# Altium integrated library Lattice CPLD ispLSI 5000VE.IntLib: 66 symbols (part 6 of 7)
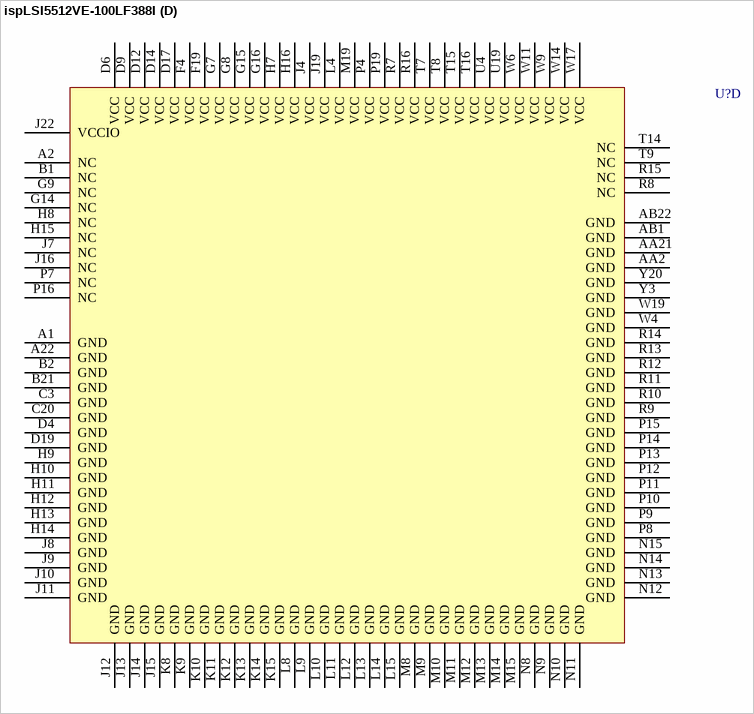
[diagram p62: symbol ispLSI5512VE-100LF388I]

## ispLSI5512VE-100LF388I
designator U?
ispLSI 5512VE SuperWIDE High Density PLD with 256 User I/Os, 10 ns, 3.3 V, Industrial Grade; Published: 17-Sep-2003; LatestRevisionDate: 13-Apr-2006; LatestRevisionNote: IPC-7351 Footprint Added.; DatasheetVersion: 5512ve_05, Jan-2002; PackageVersion: pkg_32, Aug-2005; PackageReference: fpBGA388; Publisher: Altium Limited; PackageDescription: 388-Ball Fine Pitch Ball Grid Array (fpBGA388); ComponentLink1Description: Manufacturer Link; ComponentLink1URL: http://www.latticesemi.com/products/cpld/5000/5000VE/index.cfm; ComponentLink2Description: Datasheet; ComponentLink2URL: http://www.latticesemi.com/account/_download.cfm?AMID=817; ComponentLink3Description: Lattice Login; ComponentLink3URL: http://www.latticesemi.com/account/login.cfm
footprint fpBGA388 (BGA, 388-Leads, Body 23x23mm, Pitch 1mm)
3D model 5512VE-fpBGA388 (388-Ball Fine Pitch Ball Grid Array (fpBGA388))
part A pins: AA1 I/O20 (io), AA3 I/O26 (io), AA4 I/O31 (io), AA5 I/O34 (io), AA6 I/O37 (io), AA7 I/O42 (io), AA8 I/O46 (io), AA9 I/O50 (io), AA10 I/O55 (io), AA11 I/O59 (io), AA12 I/O63 (io), AA13 I/O68 (io), AA14 I/O71 (io), AA15 I/O74 (io), AA16 I/O79 (io), AA17 I/O84 (io), AA18 I/O88 (io), AA19 I/O91 (io), AA20 I/O96 (io), AA22 I/O98 (io), AB2 I/O25 (io), AB3 I/O29 (io), AB4 I/O33 (io), AB5 I/O36 (io), AB6 I/O40 (io), AB7 I/O43 (io), AB8 I/O47 (io), AB9 I/O51 (io), AB10 I/O56 (io), AB11 I/O58 (io), AB12 I/O62 (io), AB13 I/O67 (io), AB14 I/O70 (io), AB15 I/O73 (io), AB16 I/O78 (io), AB17 I/O81 (io), AB18 I/O86 (io), AB19 I/O89 (io), AB20 I/O92 (io), AB21 I/O97 (io), K20 I/O142 (io), K21 I/O141 (io), K22 I/O140 (io), L16 I/O143 (io), L19 I/O139 (io), L20 I/O137 (io), L21 I/O136 (io), L22 I/O135 (io), M16 I/O133 (io), M20 I/O134 (io), M21 I/O132 (io), M22 I/O131 (io), N7 I/O5 (io), N16 I/O124 (io), N19 I/O126 (io), N20 I/O127 (io), N21 I/O128 (io), N22 I/O130 (io), P20 I/O122 (io), P21 I/O123 (io), P22 I/O125 (io), R1 I/O0/TOE (io), R2 I/O1 (io), R3 I/O4 (io), R4 I/O7 (io), R19 I/O116 (io), R20 I/O118 (io), R21 I/O119 (io), R22 I/O121 (io), T1 I/O2 (io), T2 I/O6 (io), T3 I/O9 (io), T4 I/O13 (io), T10 I/O52 (io), T11 I/O61 (io), T13 I/O76 (io), T19 I/O110 (io), T20 I/O114 (io), T21 I/O115 (io), T22 I/O117 (io), U1 I/O8 (io), U2 I/O10 (io), U3 I/O14 (io), U20 I/O108 (io), U21 I/O112 (io), U22 I/O113 (io), V1 I/O11 (io), V2 I/O15 (io), V3 I/O17 (io), V4 I/O23 (io), V19 I/O101 (io), V20 I/O105 (io), V21 I/O107 (io), V22 I/O109 (io), W1 I/O16 (io), W2 I/O18 (io), W3 I/O24 (io), W5 I/O28 (io), W7 I/O38 (io), W8 I/O44 (io), W10 I/O53 (io), W12 I/O65 (io), W13 I/O69 (io), W15 I/O80 (io), W16 I/O85 (io), W18 I/O94 (io), W20 I/O100 (io), W21 I/O104 (io), W22 I/O106 (io), Y1 I/O19 (io), Y2 I/O22 (io), Y4 I/O27 (io), Y5 I/O32 (io), Y6 I/O35 (io), Y7 I/O41 (io), Y8 I/O45 (io), Y9 I/O49 (io), Y10 I/O54 (io), Y11 I/O60 (io), Y12 I/O64 (io), Y14 I/O72 (io), Y15 I/O77 (io), Y16 I/O82 (io), Y17 I/O87 (io), Y18 I/O90 (io), Y19 I/O95 (io), Y21 I/O99 (io), Y22 I/O103 (io)
part B pins: A3 I/O237 (io), A4 I/O234 (io), A5 I/O231 (io), A6 I/O226 (io), A7 I/O223 (io), A8 I/O218 (io), A9 I/O215 (io), A10 I/O211 (io), A11 I/O207 (io), A12 I/O202 (io), A13 I/O201 (io), A14 I/O196 (io), A15 I/O192 (io), A16 I/O189 (io), A17 I/O184 (io), A18 I/O181 (io), A19 I/O178 (io), A20 I/O174 (io), A21 I/O170 (io), B3 I/O241 (io), B4 I/O236 (io), B5 I/O233 (io), B6 I/O228 (io), B7 I/O224 (io), B8 I/O219 (io), B9 I/O216 (io), B11 I/O208 (io), B12 I/O204 (io), B13 I/O200 (io), B14 I/O195 (io), B15 I/O191 (io), B16 I/O187 (io), B17 I/O182 (io), B18 I/O179/CLK2 (io), B19 I/O175 (io), B20 I/O171 (io), B22 I/O169 (io), C1 I/O245 (io), C2 I/O242 (io), C4 I/O240 (io), C5 I/O235 (io), C6 I/O232 (io), C7 I/O227 (io), C8 I/O221 (io), C9 I/O217 (io), C10 I/O213 (io), C11 I/O209 (io), C12 I/O205 (io), C13 I/O199 (io), C14 I/O193 (io), C15 I/O190 (io), C16 I/O186 (io), C17 I/O180 (io), C18 I/O177 (io), C19 I/O172 (io), C21 I/O165 (io), C22 I/O164 (io), D1 I/O249 (io), D2 I/O246 (io), D3 I/O243 (io), D5 I/O238 (io), D7 I/O229 (io), D8 I/O225 (io), D10 I/O214 (io), D11 I/O210 (io), D13 I/O198 (io), D15 I/O188 (io), D16 I/O183 (io), D18 I/O173 (io), D20 I/O168 (io), D21 I/O163 (io), D22 I/O161 (io), E1 I/O252 (io), E2 I/O250 (io), E3 I/O247 (io), E4 I/O244 (io), E19 I/O166 (io), E20 I/O162 (io), E21 I/O160 (io), E22 I/O156 (io), F1 I/O256 (io), F2 I/O253 (io), F3 I/O251 (io), F20 I/O159 (io), F21 I/O155 (io), F22 I/O153 (io), G1 I/O259 (io), G2 I/O258 (io), G3 I/O255 (io), G4 I/O254 (io), G10 I/O220 (io), G12 I/O206 (io), G13 I/O197CLK3 (io), G19 I/O157 (io), G20 I/O154 (io), G21 I/O151 (io), G22 I/O147 (io), H1 I/O263 (io), H2 I/O262 (io), H3 I/O261 (io), H4 I/O260 (io), H19 I/O152 (io), H20 I/O148 (io), H21 I/O146 (io), H22 I/O145 (io), J1 I/O268 (io), J2 I/O265 (io), J3 I/O264 (io), J20 I/O144 (io), K1 I/O272 (io), K2 I/O271 (io), K3 I/O270 (io), K4 I/O269 (io), K7 I/O267 (io), K16 I/O150 (io), L1 I/O273 (io), L2 I/O274 (io), L3 I/O276 (io), L7 I/O277 (io), M1 I/O278 (io), M2 I/O279 (io), M3 I/O280 (io), M4 I/O281 (io), M7 I/O287 (io), N1 I/O282 (io), N2 I/O283 (io), N3 I/O285 (io), P1 I/O286 (io)
part C pins: B10 CLK0 (in), G11 CLK1 (in), J21 RESET (in), K19 TDO (out), N4 TMS (in), P2 TDI (in), P3 TCK (in), T12 GOE1 (in), Y13 GOE0 (in)
part D pins: A1 GND (power), A2 NC, A22 GND (power), AA2 GND (power), AA21 GND (power), AB1 GND (power), AB22 GND (power), B1 NC, B2 GND (power), B21 GND (power), C3 GND (power), C20 GND (power), D4 GND (power), D6 VCC (power), D9 VCC (power), D12 VCC (power), D14 VCC (power), D17 VCC (power), D19 GND (power), F4 VCC (power), F19 VCC (power), G7 VCC (power), G8 VCC (power), G9 NC, G14 NC, G15 VCC (power), G16 VCC (power), H7 VCC (power), H8 NC, H9 GND (power), H10 GND (power), H11 GND (power), H12 GND (power), H13 GND (power), H14 GND (power), H15 NC, H16 VCC (power), J4 VCC (power), J7 NC, J8 GND (power), J9 GND (power), J10 GND (power), J11 GND (power), J12 GND (power), J13 GND (power), J14 GND (power), J15 GND (power), J16 NC, J19 VCC (power), J22 VCCIO (power), K8 GND (power), K9 GND (power), K10 GND (power), K11 GND (power), K12 GND (power), K13 GND (power), K14 GND (power), K15 GND (power), L4 VCC (power), L8 GND (power), L9 GND (power), L10 GND (power), L11 GND (power), L12 GND (power), L13 GND (power), L14 GND (power), L15 GND (power), M8 GND (power), M9 GND (power), M10 GND (power), M11 GND (power), M12 GND (power), M13 GND (power), M14 GND (power), M15 GND (power), M19 VCC (power), N8 GND (power), N9 GND (power), N10 GND (power), N11 GND (power), N12 GND (power), N13 GND (power), N14 GND (power), N15 GND (power), P4 VCC (power), P7 NC, P8 GND (power), P9 GND (power), P10 GND (power), P11 GND (power), P12 GND (power), P13 GND (power), P14 GND (power), P15 GND (power), P16 NC, P19 VCC (power), R7 VCC (power), R8 NC, R9 GND (power), R10 GND (power), R11 GND (power), R12 GND (power), R13 GND (power), R14 GND (power), R15 NC, R16 VCC (power), T7 VCC (power), T8 VCC (power), T9 NC, T14 NC, T15 VCC (power), T16 VCC (power), U4 VCC (power), U19 VCC (power), W4 GND (power), W6 VCC (power), W9 VCC (power), W11 VCC (power), W14 VCC (power), W17 VCC (power), W19 GND (power), Y3 GND (power), Y20 GND (power)

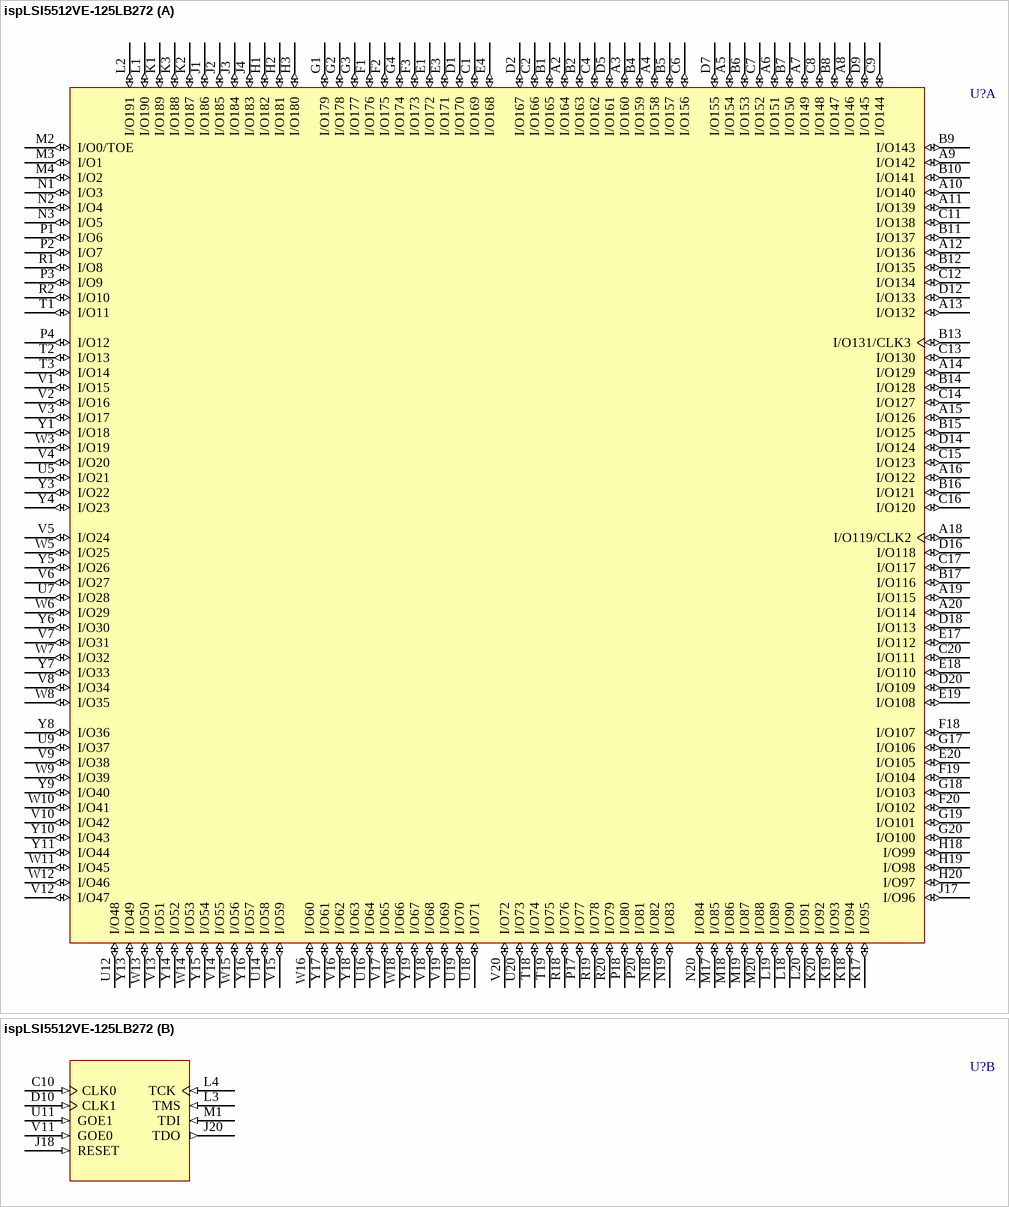
[diagram p42: symbol ispLSI5512VE-125LB272]

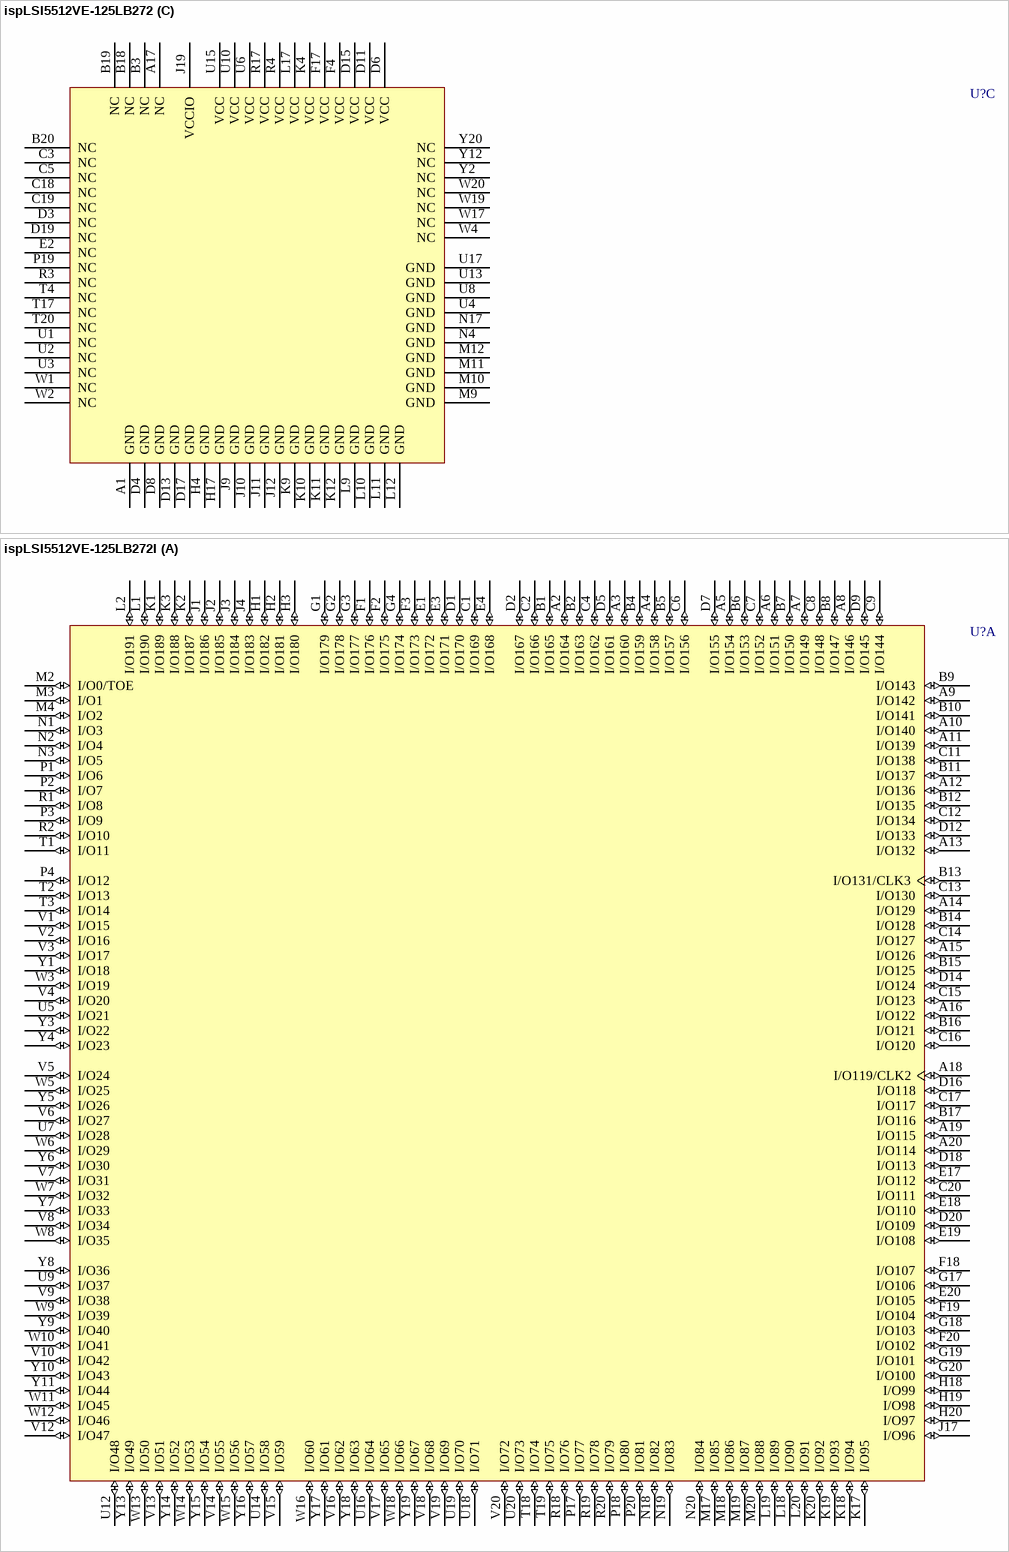
[diagram p43: symbols ispLSI5512VE-125LB272 to ispLSI5512VE-125LB272I]

## ispLSI5512VE-125LB272
designator U?
ispLSI 5512VE SuperWIDE High Density PLD with 192 User I/Os, 7.5 ns, 3.3 V, Commercial Grade; Published: 17-Sep-2003; LatestRevisionDate: 13-Apr-2006; LatestRevisionNote: IPC-7351 Footprint Added.; DatasheetVersion: 5512ve_05, Jan-2002; PackageVersion: pkg_32, Aug-2005; PackageReference: BGA272; Publisher: Altium Limited; PackageDescription: 272-Ball Ball Grid Array (BGA272); ComponentLink1Description: Manufacturer Link; ComponentLink1URL: http://www.latticesemi.com/products/cpld/5000/5000VE/index.cfm; ComponentLink2Description: Datasheet; ComponentLink2URL: http://www.latticesemi.com/account/_download.cfm?AMID=817; ComponentLink3Description: Lattice Login; ComponentLink3URL: http://www.latticesemi.com/account/login.cfm
footprint BGA272 (BGA, 272-Leads, Body 27x27mm, Pitch 1.27mm)
3D model 5512VE-BGA272 (272-Ball Ball Grid Array (BGA272))
part A pins: A2 I/O164 (io), A3 I/O160 (io), A4 I/O158 (io), A5 I/O154 (io), A6 I/O151 (io), A7 I/O149 (io), A8 I/O146 (io), A9 I/O142 (io), A10 I/O140 (io), A11 I/O139 (io), A12 I/O136 (io), A13 I/O132 (io), A14 I/O129 (io), A15 I/O126 (io), A16 I/O122 (io), A18 I/O119/CLK2 (io), A19 I/O115 (io), A20 I/O114 (io), B1 I/O165 (io), B2 I/O163 (io), B4 I/O159 (io), B5 I/O157 (io), B6 I/O153 (io), B7 I/O150 (io), B8 I/O147 (io), B9 I/O143 (io), B10 I/O141 (io), B11 I/O137 (io), B12 I/O135 (io), B13 I/O131/CLK3 (io), B14 I/O128 (io), B15 I/O125 (io), B16 I/O121 (io), B17 I/O116 (io), C1 I/O169 (io), C2 I/O166 (io), C4 I/O162 (io), C6 I/O156 (io), C7 I/O152 (io), C8 I/O148 (io), C9 I/O144 (io), C11 I/O138 (io), C12 I/O134 (io), C13 I/O130 (io), C14 I/O127 (io), C15 I/O123 (io), C16 I/O120 (io), C17 I/O117 (io), C20 I/O111 (io), D1 I/O170 (io), D2 I/O167 (io), D5 I/O161 (io), D7 I/O155 (io), D9 I/O145 (io), D12 I/O133 (io), D14 I/O124 (io), D16 I/O118 (io), D18 I/O113 (io), D20 I/O109 (io), E1 I/O172 (io), E3 I/O171 (io), E4 I/O168 (io), E17 I/O112 (io), E18 I/O110 (io), E19 I/O108 (io), E20 I/O105 (io), F1 I/O176 (io), F2 I/O175 (io), F3 I/O173 (io), F18 I/O107 (io), F19 I/O104 (io), F20 I/O102 (io), G1 I/O179 (io), G2 I/O178 (io), G3 I/O177 (io), G4 I/O174 (io), G17 I/O106 (io), G18 I/O103 (io), G19 I/O101 (io), G20 I/O100 (io), H1 I/O182 (io), H2 I/O181 (io), H3 I/O180 (io), H18 I/O99 (io), H19 I/O98 (io), H20 I/O97 (io), J1 I/O186 (io), J2 I/O185 (io), J3 I/O184 (io), J4 I/O183 (io), J17 I/O96 (io), K1 I/O189 (io), K2 I/O187 (io), K3 I/O188 (io), K17 I/O95 (io), K18 I/O94 (io), K19 I/O93 (io), K20 I/O92 (io), L1 I/O190 (io), L2 I/O191 (io), L18 I/O90 (io), L19 I/O89 (io), L20 I/O91 (io), M2 I/O0/TOE (io), M3 I/O1 (io), M4 I/O2 (io), M17 I/O85 (io), M18 I/O86 (io), M19 I/O87 (io), M20 I/O88 (io), N1 I/O3 (io), N2 I/O4 (io), N3 I/O5 (io), N18 I/O82 (io), N19 I/O83 (io), N20 I/O84 (io), P1 I/O6 (io), P2 I/O7 (io), P3 I/O9 (io), P4 I/O12 (io), P17 I/O77 (io), P18 I/O80 (io), P20 I/O81 (io), R1 I/O8 (io), R2 I/O10 (io), R18 I/O76 (io), R19 I/O78 (io), R20 I/O79 (io), T1 I/O11 (io), T2 I/O13 (io), T3 I/O14 (io), T18 I/O74 (io), T19 I/O75 (io), U5 I/O21 (io), U7 I/O28 (io), U9 I/O37 (io), U12 I/O48 (io), U14 I/O58 (io), U16 I/O64 (io), U18 I/O71 (io), U19 I/O70 (io), U20 I/O73 (io), V1 I/O15 (io), V2 I/O16 (io), V3 I/O17 (io), V4 I/O20 (io), V5 I/O24 (io), V6 I/O27 (io), V7 I/O31 (io), V8 I/O34 (io), V9 I/O38 (io), V10 I/O42 (io), V12 I/O47 (io), V13 I/O51 (io), V14 I/O55 (io), V15 I/O59 (io), V16 I/O62 (io), V17 I/O65 (io), V18 I/O68 (io), V19 I/O69 (io), V20 I/O72 (io), W3 I/O19 (io), W5 I/O25 (io), W6 I/O29 (io), W7 I/O32 (io), W8 I/O35 (io), W9 I/O39 (io), W10 I/O41 (io), W11 I/O45 (io), W12 I/O46 (io), W13 I/O50 (io), W14 I/O53 (io), W15 I/O56 (io), W16 I/O60 (io), W18 I/O66 (io), Y1 I/O18 (io), Y3 I/O22 (io), Y4 I/O23 (io), Y5 I/O26 (io), Y6 I/O30 (io), Y7 I/O33 (io), Y8 I/O36 (io), Y9 I/O40 (io), Y10 I/O43 (io), Y11 I/O44 (io), Y13 I/O49 (io), Y14 I/O52 (io), Y15 I/O54 (io), Y16 I/O57 (io), Y17 I/O61 (io), Y18 I/O63 (io), Y19 I/O67 (io)
part B pins: C10 CLK0 (in), D10 CLK1 (in), J18 RESET (in), J20 TDO (out), L3 TMS (in), L4 TCK (in), M1 TDI (in), U11 GOE1 (in), V11 GOE0 (in)
part C pins: A1 GND (power), A17 NC, B3 NC, B18 NC, B19 NC, B20 NC, C3 NC, C5 NC, C18 NC, C19 NC, D3 NC, D4 GND (power), D6 VCC (power), D8 GND (power), D11 VCC (power), D13 GND (power), D15 VCC (power), D17 GND (power), D19 NC, E2 NC, F4 VCC (power), F17 VCC (power), H4 GND (power), H17 GND (power), J9 GND (power), J10 GND (power), J11 GND (power), J12 GND (power), J19 VCCIO (power), K4 VCC (power), K9 GND (power), K10 GND (power), K11 GND (power), K12 GND (power), L9 GND (power), L10 GND (power), L11 GND (power), L12 GND (power), L17 VCC (power), M9 GND (power), M10 GND (power), M11 GND (power), M12 GND (power), N4 GND (power), N17 GND (power), P19 NC, R3 NC, R4 VCC (power), R17 VCC (power), T4 NC, T17 NC, T20 NC, U1 NC, U2 NC, U3 NC, U4 GND (power), U6 VCC (power), U8 GND (power), U10 VCC (power), U13 GND (power), U15 VCC (power), U17 GND (power), W1 NC, W2 NC, W4 NC, W17 NC, W19 NC, W20 NC, Y2 NC, Y12 NC, Y20 NC

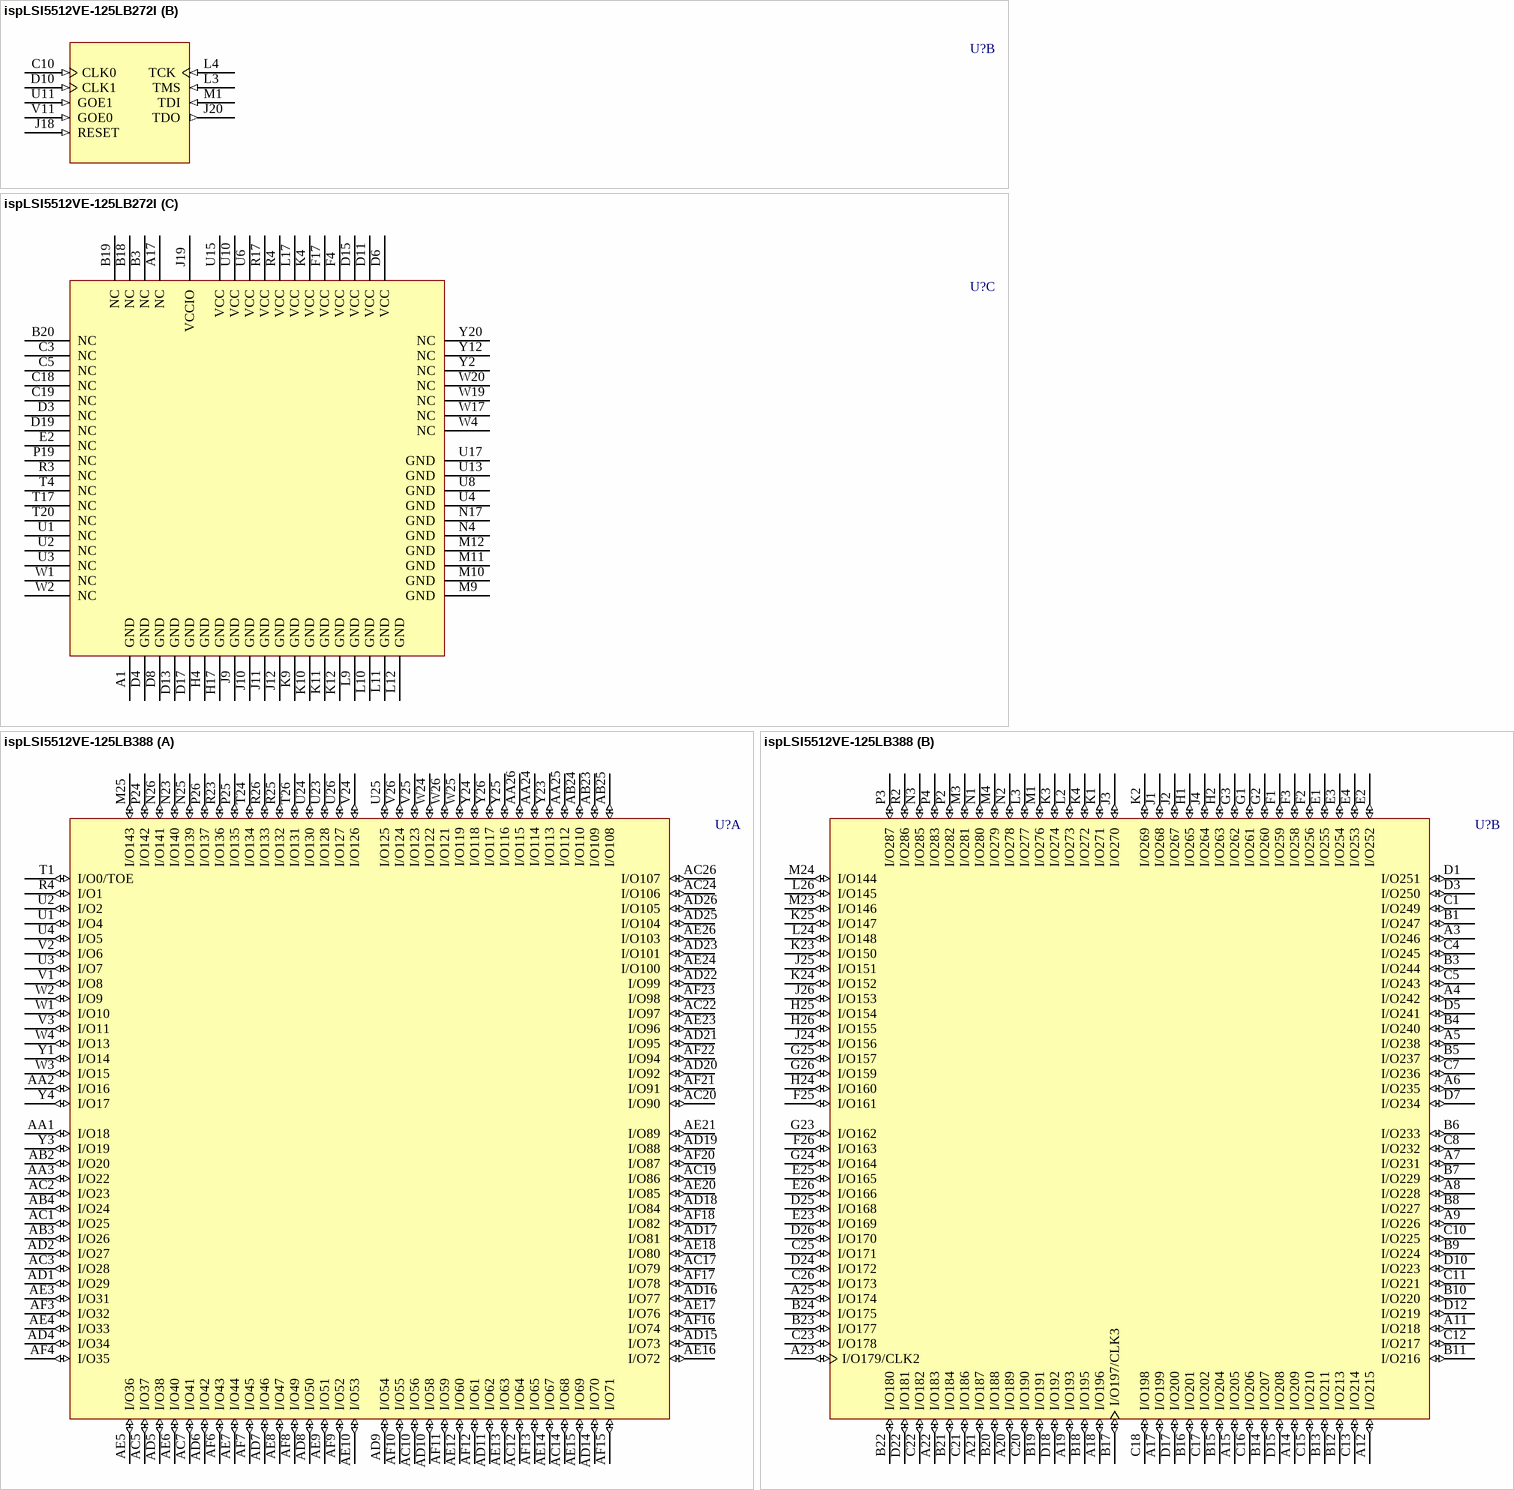
[diagram p44: symbols ispLSI5512VE-125LB272I to ispLSI5512VE-125LB388]

## ispLSI5512VE-125LB272I
designator U?
ispLSI 5512VE SuperWIDE High Density PLD with 192 User I/Os, 7.5 ns, 3.3 V, Industrial Grade; Published: 17-Sep-2003; LatestRevisionDate: 13-Apr-2006; LatestRevisionNote: IPC-7351 Footprint Added.; DatasheetVersion: 5512ve_05, Jan-2002; PackageVersion: pkg_32, Aug-2005; PackageReference: BGA272; Publisher: Altium Limited; PackageDescription: 272-Ball Ball Grid Array (BGA272); ComponentLink1Description: Manufacturer Link; ComponentLink1URL: http://www.latticesemi.com/products/cpld/5000/5000VE/index.cfm; ComponentLink2Description: Datasheet; ComponentLink2URL: http://www.latticesemi.com/account/_download.cfm?AMID=817; ComponentLink3Description: Lattice Login; ComponentLink3URL: http://www.latticesemi.com/account/login.cfm
footprint BGA272 (BGA, 272-Leads, Body 27x27mm, Pitch 1.27mm)
3D model 5512VE-BGA272 (272-Ball Ball Grid Array (BGA272))
part A pins: A2 I/O164 (io), A3 I/O160 (io), A4 I/O158 (io), A5 I/O154 (io), A6 I/O151 (io), A7 I/O149 (io), A8 I/O146 (io), A9 I/O142 (io), A10 I/O140 (io), A11 I/O139 (io), A12 I/O136 (io), A13 I/O132 (io), A14 I/O129 (io), A15 I/O126 (io), A16 I/O122 (io), A18 I/O119/CLK2 (io), A19 I/O115 (io), A20 I/O114 (io), B1 I/O165 (io), B2 I/O163 (io), B4 I/O159 (io), B5 I/O157 (io), B6 I/O153 (io), B7 I/O150 (io), B8 I/O147 (io), B9 I/O143 (io), B10 I/O141 (io), B11 I/O137 (io), B12 I/O135 (io), B13 I/O131/CLK3 (io), B14 I/O128 (io), B15 I/O125 (io), B16 I/O121 (io), B17 I/O116 (io), C1 I/O169 (io), C2 I/O166 (io), C4 I/O162 (io), C6 I/O156 (io), C7 I/O152 (io), C8 I/O148 (io), C9 I/O144 (io), C11 I/O138 (io), C12 I/O134 (io), C13 I/O130 (io), C14 I/O127 (io), C15 I/O123 (io), C16 I/O120 (io), C17 I/O117 (io), C20 I/O111 (io), D1 I/O170 (io), D2 I/O167 (io), D5 I/O161 (io), D7 I/O155 (io), D9 I/O145 (io), D12 I/O133 (io), D14 I/O124 (io), D16 I/O118 (io), D18 I/O113 (io), D20 I/O109 (io), E1 I/O172 (io), E3 I/O171 (io), E4 I/O168 (io), E17 I/O112 (io), E18 I/O110 (io), E19 I/O108 (io), E20 I/O105 (io), F1 I/O176 (io), F2 I/O175 (io), F3 I/O173 (io), F18 I/O107 (io), F19 I/O104 (io), F20 I/O102 (io), G1 I/O179 (io), G2 I/O178 (io), G3 I/O177 (io), G4 I/O174 (io), G17 I/O106 (io), G18 I/O103 (io), G19 I/O101 (io), G20 I/O100 (io), H1 I/O182 (io), H2 I/O181 (io), H3 I/O180 (io), H18 I/O99 (io), H19 I/O98 (io), H20 I/O97 (io), J1 I/O186 (io), J2 I/O185 (io), J3 I/O184 (io), J4 I/O183 (io), J17 I/O96 (io), K1 I/O189 (io), K2 I/O187 (io), K3 I/O188 (io), K17 I/O95 (io), K18 I/O94 (io), K19 I/O93 (io), K20 I/O92 (io), L1 I/O190 (io), L2 I/O191 (io), L18 I/O90 (io), L19 I/O89 (io), L20 I/O91 (io), M2 I/O0/TOE (io), M3 I/O1 (io), M4 I/O2 (io), M17 I/O85 (io), M18 I/O86 (io), M19 I/O87 (io), M20 I/O88 (io), N1 I/O3 (io), N2 I/O4 (io), N3 I/O5 (io), N18 I/O82 (io), N19 I/O83 (io), N20 I/O84 (io), P1 I/O6 (io), P2 I/O7 (io), P3 I/O9 (io), P4 I/O12 (io), P17 I/O77 (io), P18 I/O80 (io), P20 I/O81 (io), R1 I/O8 (io), R2 I/O10 (io), R18 I/O76 (io), R19 I/O78 (io), R20 I/O79 (io), T1 I/O11 (io), T2 I/O13 (io), T3 I/O14 (io), T18 I/O74 (io), T19 I/O75 (io), U5 I/O21 (io), U7 I/O28 (io), U9 I/O37 (io), U12 I/O48 (io), U14 I/O58 (io), U16 I/O64 (io), U18 I/O71 (io), U19 I/O70 (io), U20 I/O73 (io), V1 I/O15 (io), V2 I/O16 (io), V3 I/O17 (io), V4 I/O20 (io), V5 I/O24 (io), V6 I/O27 (io), V7 I/O31 (io), V8 I/O34 (io), V9 I/O38 (io), V10 I/O42 (io), V12 I/O47 (io), V13 I/O51 (io), V14 I/O55 (io), V15 I/O59 (io), V16 I/O62 (io), V17 I/O65 (io), V18 I/O68 (io), V19 I/O69 (io), V20 I/O72 (io), W3 I/O19 (io), W5 I/O25 (io), W6 I/O29 (io), W7 I/O32 (io), W8 I/O35 (io), W9 I/O39 (io), W10 I/O41 (io), W11 I/O45 (io), W12 I/O46 (io), W13 I/O50 (io), W14 I/O53 (io), W15 I/O56 (io), W16 I/O60 (io), W18 I/O66 (io), Y1 I/O18 (io), Y3 I/O22 (io), Y4 I/O23 (io), Y5 I/O26 (io), Y6 I/O30 (io), Y7 I/O33 (io), Y8 I/O36 (io), Y9 I/O40 (io), Y10 I/O43 (io), Y11 I/O44 (io), Y13 I/O49 (io), Y14 I/O52 (io), Y15 I/O54 (io), Y16 I/O57 (io), Y17 I/O61 (io), Y18 I/O63 (io), Y19 I/O67 (io)
part B pins: C10 CLK0 (in), D10 CLK1 (in), J18 RESET (in), J20 TDO (out), L3 TMS (in), L4 TCK (in), M1 TDI (in), U11 GOE1 (in), V11 GOE0 (in)
part C pins: A1 GND (power), A17 NC, B3 NC, B18 NC, B19 NC, B20 NC, C3 NC, C5 NC, C18 NC, C19 NC, D3 NC, D4 GND (power), D6 VCC (power), D8 GND (power), D11 VCC (power), D13 GND (power), D15 VCC (power), D17 GND (power), D19 NC, E2 NC, F4 VCC (power), F17 VCC (power), H4 GND (power), H17 GND (power), J9 GND (power), J10 GND (power), J11 GND (power), J12 GND (power), J19 VCCIO (power), K4 VCC (power), K9 GND (power), K10 GND (power), K11 GND (power), K12 GND (power), L9 GND (power), L10 GND (power), L11 GND (power), L12 GND (power), L17 VCC (power), M9 GND (power), M10 GND (power), M11 GND (power), M12 GND (power), N4 GND (power), N17 GND (power), P19 NC, R3 NC, R4 VCC (power), R17 VCC (power), T4 NC, T17 NC, T20 NC, U1 NC, U2 NC, U3 NC, U4 GND (power), U6 VCC (power), U8 GND (power), U10 VCC (power), U13 GND (power), U15 VCC (power), U17 GND (power), W1 NC, W2 NC, W4 NC, W17 NC, W19 NC, W20 NC, Y2 NC, Y12 NC, Y20 NC

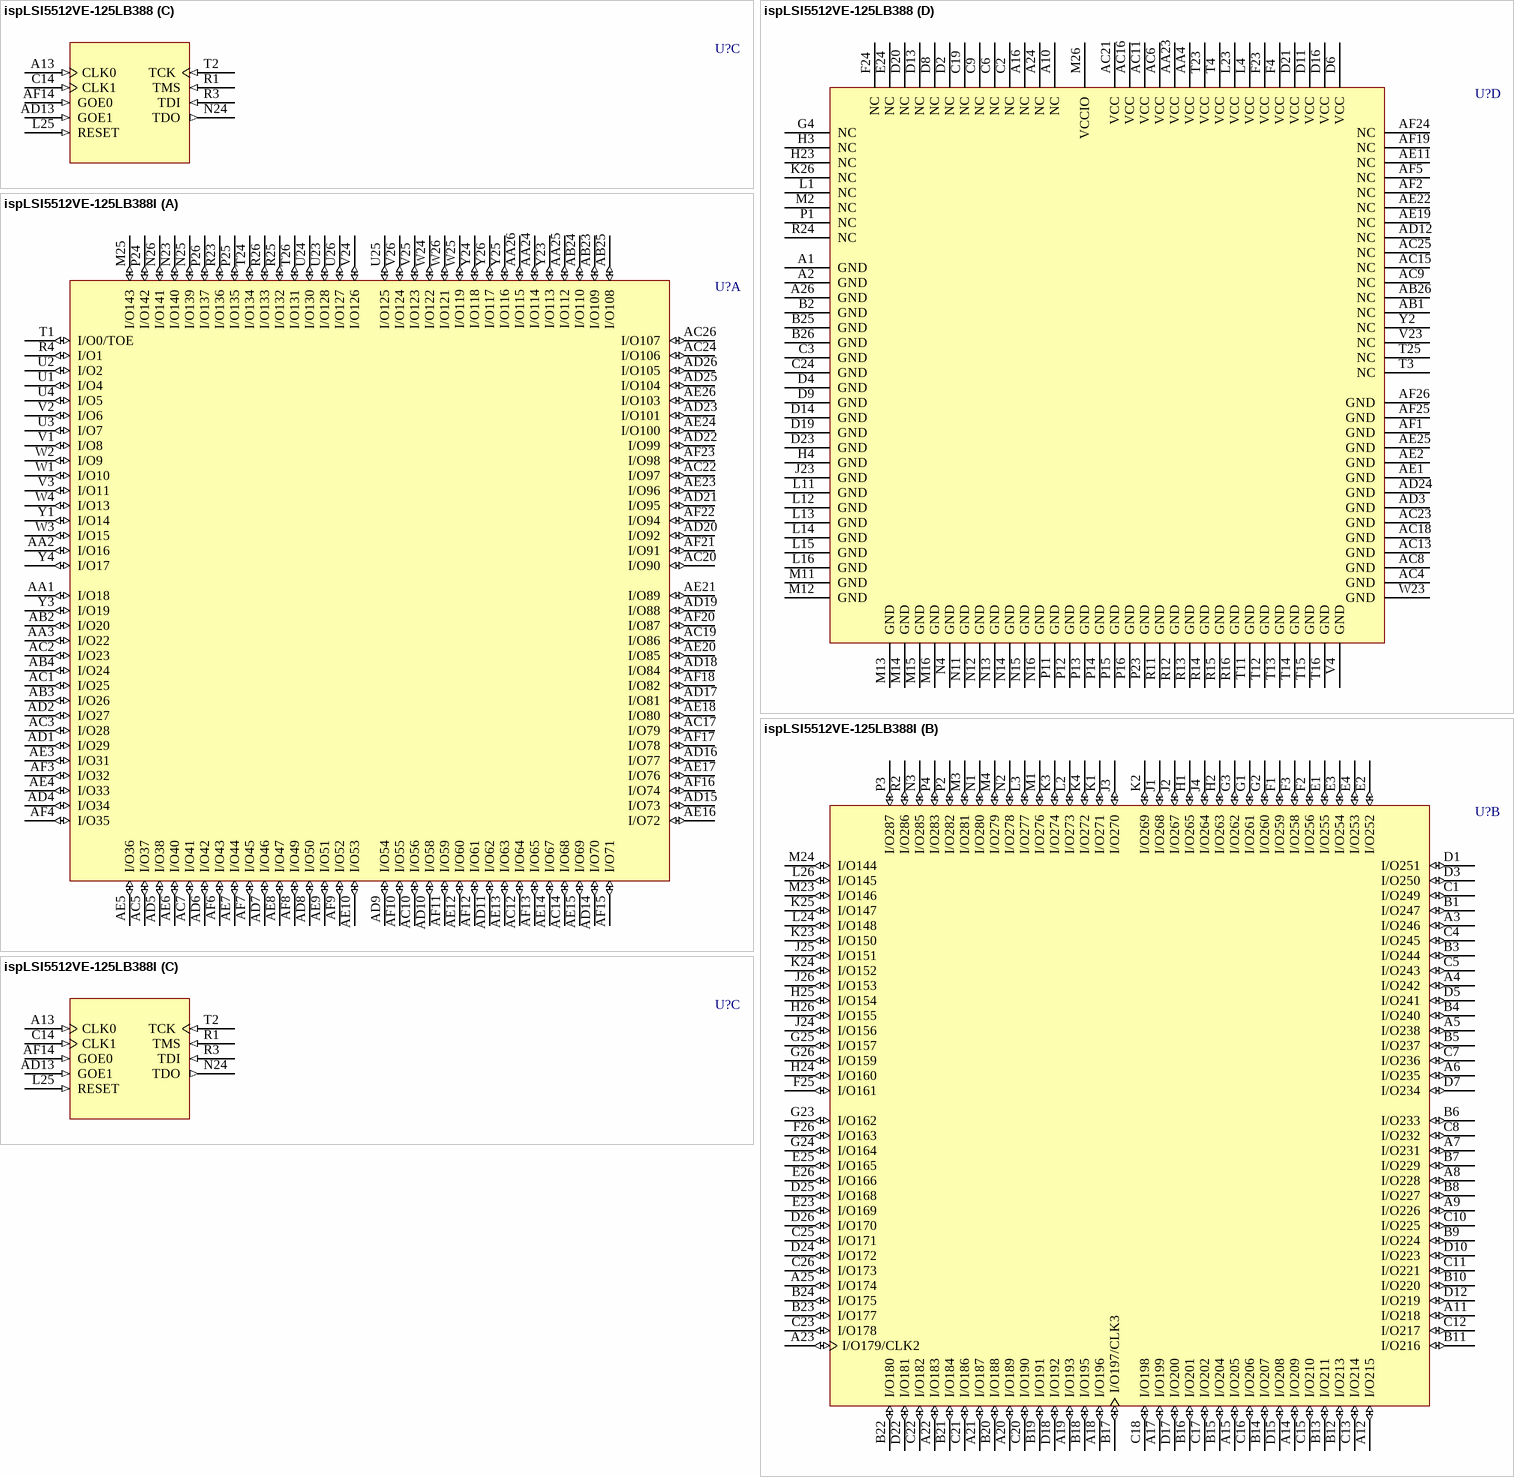
[diagram p45: symbols ispLSI5512VE-125LB388 to ispLSI5512VE-125LB388I]

## ispLSI5512VE-125LB388
designator U?
ispLSI 5512VE SuperWIDE High Density PLD with 256 User I/Os, 7.5 ns, 3.3 V, Commercial Grade; Published: 17-Sep-2003; LatestRevisionDate: 13-Apr-2006; LatestRevisionNote: IPC-7351 Footprint Added.; DatasheetVersion: 5512ve_05, Jan-2002; PackageVersion: pkg_32, Aug-2005; PackageReference: BGA388; Publisher: Altium Limited; PackageDescription: 388-Ball Ball Grid Array (BGA388); ComponentLink1Description: Manufacturer Link; ComponentLink1URL: http://www.latticesemi.com/products/cpld/5000/5000VE/index.cfm; ComponentLink2Description: Datasheet; ComponentLink2URL: http://www.latticesemi.com/account/_download.cfm?AMID=817; ComponentLink3Description: Lattice Login; ComponentLink3URL: http://www.latticesemi.com/account/login.cfm
footprint BGA388 (BGA, 388-Leads, Body 35x35mm, Pitch 1.27mm)
3D model 5512VE-BGA388 (388-Ball Ball Grid Array (BGA388))
part A pins: AA1 I/O18 (io), AA2 I/O16 (io), AA3 I/O22 (io), AA24 I/O114 (io), AA25 I/O112 (io), AA26 I/O115 (io), AB2 I/O20 (io), AB3 I/O26 (io), AB4 I/O24 (io), AB23 I/O109 (io), AB24 I/O110 (io), AB25 I/O108 (io), AC1 I/O25 (io), AC2 I/O23 (io), AC3 I/O28 (io), AC5 I/O37 (io), AC7 I/O41 (io), AC10 I/O56 (io), AC12 I/O64 (io), AC14 I/O68 (io), AC17 I/O79 (io), AC19 I/O86 (io), AC20 I/O90 (io), AC22 I/O97 (io), AC24 I/O106 (io), AC26 I/O107 (io), AD1 I/O29 (io), AD2 I/O27 (io), AD4 I/O34 (io), AD5 I/O38 (io), AD6 I/O42 (io), AD7 I/O46 (io), AD8 I/O50 (io), AD9 I/O54 (io), AD10 I/O58 (io), AD11 I/O62 (io), AD14 I/O70 (io), AD15 I/O73 (io), AD16 I/O77 (io), AD17 I/O81 (io), AD18 I/O84 (io), AD19 I/O88 (io), AD20 I/O92 (io), AD21 I/O95 (io), AD22 I/O99 (io), AD23 I/O101 (io), AD25 I/O104 (io), AD26 I/O105 (io), AE3 I/O31 (io), AE4 I/O33 (io), AE5 I/O36 (io), AE6 I/O40 (io), AE7 I/O44 (io), AE8 I/O47 (io), AE9 I/O51 (io), AE10 I/O53 (io), AE12 I/O60 (io), AE13 I/O63 (io), AE14 I/O67 (io), AE15 I/O69 (io), AE16 I/O72 (io), AE17 I/O76 (io), AE18 I/O80 (io), AE20 I/O85 (io), AE21 I/O89 (io), AE23 I/O96 (io), AE24 I/O100 (io), AE26 I/O103 (io), AF3 I/O32 (io), AF4 I/O35 (io), AF6 I/O43 (io), AF7 I/O45 (io), AF8 I/O49 (io), AF9 I/O52 (io), AF10 I/O55 (io), AF11 I/O59 (io), AF12 I/O61 (io), AF13 I/O65 (io), AF15 I/O71 (io), AF16 I/O74 (io), AF17 I/O78 (io), AF18 I/O82 (io), AF20 I/O87 (io), AF21 I/O91 (io), AF22 I/O94 (io), AF23 I/O98 (io), M25 I/O143 (io), N23 I/O140 (io), N25 I/O139 (io), N26 I/O141 (io), P24 I/O142 (io), P25 I/O135 (io), P26 I/O137 (io), R4 I/O1 (io), R23 I/O136 (io), R25 I/O132 (io), R26 I/O133 (io), T1 I/O0/TOE (io), T24 I/O134 (io), T26 I/O131 (io), U1 I/O4 (io), U2 I/O2 (io), U3 I/O7 (io), U4 I/O5 (io), U23 I/O128 (io), U24 I/O130 (io), U25 I/O125 (io), U26 I/O127 (io), V1 I/O8 (io), V2 I/O6 (io), V3 I/O11 (io), V24 I/O126 (io), V25 I/O123 (io), V26 I/O124 (io), W1 I/O10 (io), W2 I/O9 (io), W3 I/O15 (io), W4 I/O13 (io), W24 I/O122 (io), W25 I/O119 (io), W26 I/O121 (io), Y1 I/O14 (io), Y3 I/O19 (io), Y4 I/O17 (io), Y23 I/O113 (io), Y24 I/O118 (io), Y25 I/O116 (io), Y26 I/O117 (io)
part B pins: A3 I/O246 (io), A4 I/O242 (io), A5 I/O238 (io), A6 I/O235 (io), A7 I/O231 (io), A8 I/O228 (io), A9 I/O226 (io), A11 I/O218 (io), A12 I/O215 (io), A14 I/O209 (io), A15 I/O205 (io), A17 I/O199 (io), A18 I/O196 (io), A19 I/O193 (io), A20 I/O189 (io), A21 I/O187 (io), A22 I/O183 (io), A23 I/O179/CLK2 (io), A25 I/O174 (io), B1 I/O247 (io), B3 I/O244 (io), B4 I/O240 (io), B5 I/O237 (io), B6 I/O233 (io), B7 I/O229 (io), B8 I/O227 (io), B9 I/O224 (io), B10 I/O220 (io), B11 I/O216 (io), B12 I/O213 (io), B13 I/O211 (io), B14 I/O207 (io), B15 I/O204 (io), B16 I/O201 (io), B17 I/O197/CLK3 (io), B18 I/O195 (io), B19 I/O191 (io), B20 I/O188 (io), B21 I/O184 (io), B22 I/O180 (io), B23 I/O177 (io), B24 I/O175 (io), C1 I/O249 (io), C4 I/O245 (io), C5 I/O243 (io), C7 I/O236 (io), C8 I/O232 (io), C10 I/O225 (io), C11 I/O221 (io), C12 I/O217 (io), C13 I/O214 (io), C15 I/O210 (io), C16 I/O206 (io), C17 I/O202 (io), C18 I/O198 (io), C20 I/O190 (io), C21 I/O186 (io), C22 I/O182 (io), C23 I/O178 (io), C25 I/O171 (io), C26 I/O173 (io), D1 I/O251 (io), D3 I/O250 (io), D5 I/O241 (io), D7 I/O234 (io), D10 I/O223 (io), D12 I/O219 (io), D15 I/O208 (io), D17 I/O200 (io), D18 I/O192 (io), D22 I/O181 (io), D24 I/O172 (io), D25 I/O168 (io), D26 I/O170 (io), E1 I/O255 (io), E2 I/O252 (io), E3 I/O254 (io), E4 I/O253 (io), E23 I/O169 (io), E25 I/O165 (io), E26 I/O166 (io), F1 I/O259 (io), F2 I/O256 (io), F3 I/O258 (io), F25 I/O161 (io), F26 I/O163 (io), G1 I/O261 (io), G2 I/O260 (io), G3 I/O262 (io), G23 I/O162 (io), G24 I/O164 (io), G25 I/O157 (io), G26 I/O159 (io), H1 I/O265 (io), H2 I/O263 (io), H24 I/O160 (io), H25 I/O154 (io), H26 I/O155 (io), J1 I/O268 (io), J2 I/O267 (io), J3 I/O270 (io), J4 I/O264 (io), J24 I/O156 (io), J25 I/O151 (io), J26 I/O153 (io), K1 I/O271 (io), K2 I/O269 (io), K3 I/O274 (io), K4 I/O272 (io), K23 I/O150 (io), K24 I/O152 (io), K25 I/O147 (io), L2 I/O273 (io), L3 I/O277 (io), L24 I/O148 (io), L26 I/O145 (io), M1 I/O276 (io), M3 I/O281 (io), M4 I/O279 (io), M23 I/O146 (io), M24 I/O144 (io), N1 I/O280 (io), N2 I/O278 (io), N3 I/O285 (io), P2 I/O282 (io), P3 I/O287 (io), P4 I/O283 (io), R2 I/O286 (io)
part C pins: A13 CLK0 (in), AD13 GOE1 (in), AF14 GOE0 (in), C14 CLK1 (in), L25 RESET (in), N24 TDO (out), R1 TMS (in), R3 TDI (in), T2 TCK (in)
part D pins: A1 GND (power), A2 GND (power), A10 NC, A16 NC, A24 NC, A26 GND (power), AA4 VCC (power), AA23 VCC (power), AB1 NC, AB26 NC, AC4 GND (power), AC6 VCC (power), AC8 GND (power), AC9 NC, AC11 VCC (power), AC13 GND (power), AC15 NC, AC16 VCC (power), AC18 GND (power), AC21 VCC (power), AC23 GND (power), AC25 NC, AD3 GND (power), AD12 NC, AD24 GND (power), AE1 GND (power), AE2 GND (power), AE11 NC, AE19 NC, AE22 NC, AE25 GND (power), AF1 GND (power), AF2 NC, AF5 NC, AF19 NC, AF24 NC, AF25 GND (power), AF26 GND (power), B2 GND (power), B25 GND (power), B26 GND (power), C2 NC, C3 GND (power), C6 NC, C9 NC, C19 NC, C24 GND (power), D2 NC, D4 GND (power), D6 VCC (power), D8 NC, D9 GND (power), D11 VCC (power), D13 NC, D14 GND (power), D16 VCC (power), D19 GND (power), D20 NC, D21 VCC (power), D23 GND (power), E24 NC, F4 VCC (power), F23 VCC (power), F24 NC, G4 NC, H3 NC, H4 GND (power), H23 NC, J23 GND (power), K26 NC, L1 NC, L4 VCC (power), L11 GND (power), L12 GND (power), L13 GND (power), L14 GND (power), L15 GND (power), L16 GND (power), L23 VCC (power), M2 NC, M11 GND (power), M12 GND (power), M13 GND (power), M14 GND (power), M15 GND (power), M16 GND (power), M26 VCCIO (power), N4 GND (power), N11 GND (power), N12 GND (power), N13 GND (power), N14 GND (power), N15 GND (power), N16 GND (power), P1 NC, P11 GND (power), P12 GND (power), P13 GND (power), P14 GND (power), P15 GND (power), P16 GND (power), P23 GND (power), R11 GND (power), R12 GND (power), R13 GND (power), R14 GND (power), R15 GND (power), R16 GND (power), R24 NC, T3 NC, T4 VCC (power), T11 GND (power), T12 GND (power), T13 GND (power), T14 GND (power), T15 GND (power), T16 GND (power), T23 VCC (power), T25 NC, V4 GND (power), V23 NC, W23 GND (power), Y2 NC

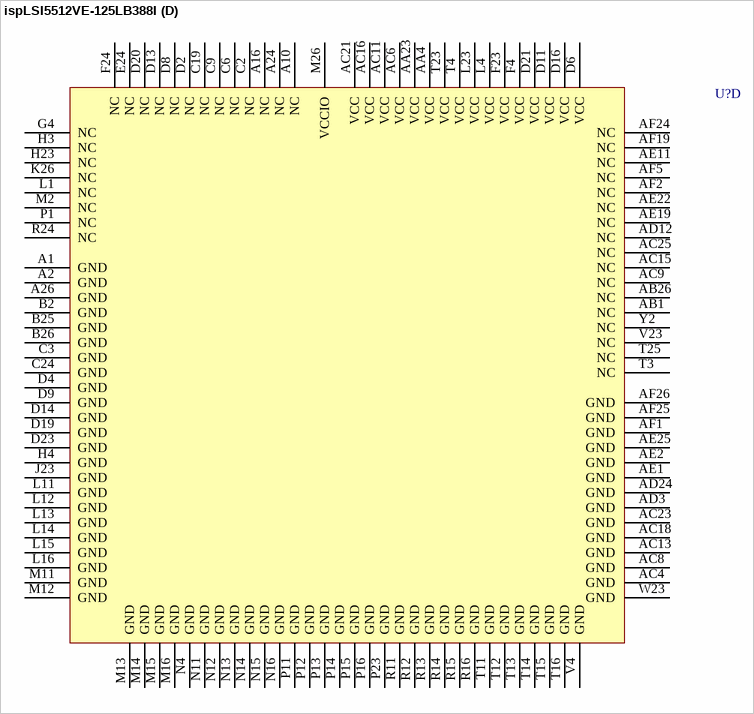
[diagram p46: symbol ispLSI5512VE-125LB388I]

## ispLSI5512VE-125LB388I
designator U?
ispLSI 5512VE SuperWIDE High Density PLD with 256 User I/Os, 7.5 ns, 3.3 V, Industrial Grade; Published: 17-Sep-2003; LatestRevisionDate: 13-Apr-2006; LatestRevisionNote: IPC-7351 Footprint Added.; DatasheetVersion: 5512ve_05, Jan-2002; PackageVersion: pkg_32, Aug-2005; PackageReference: BGA388; Publisher: Altium Limited; PackageDescription: 388-Ball Ball Grid Array (BGA388); ComponentLink1Description: Manufacturer Link; ComponentLink1URL: http://www.latticesemi.com/products/cpld/5000/5000VE/index.cfm; ComponentLink2Description: Datasheet; ComponentLink2URL: http://www.latticesemi.com/account/_download.cfm?AMID=817; ComponentLink3Description: Lattice Login; ComponentLink3URL: http://www.latticesemi.com/account/login.cfm
footprint BGA388 (BGA, 388-Leads, Body 35x35mm, Pitch 1.27mm)
3D model 5512VE-BGA388 (388-Ball Ball Grid Array (BGA388))
part A pins: AA1 I/O18 (io), AA2 I/O16 (io), AA3 I/O22 (io), AA24 I/O114 (io), AA25 I/O112 (io), AA26 I/O115 (io), AB2 I/O20 (io), AB3 I/O26 (io), AB4 I/O24 (io), AB23 I/O109 (io), AB24 I/O110 (io), AB25 I/O108 (io), AC1 I/O25 (io), AC2 I/O23 (io), AC3 I/O28 (io), AC5 I/O37 (io), AC7 I/O41 (io), AC10 I/O56 (io), AC12 I/O64 (io), AC14 I/O68 (io), AC17 I/O79 (io), AC19 I/O86 (io), AC20 I/O90 (io), AC22 I/O97 (io), AC24 I/O106 (io), AC26 I/O107 (io), AD1 I/O29 (io), AD2 I/O27 (io), AD4 I/O34 (io), AD5 I/O38 (io), AD6 I/O42 (io), AD7 I/O46 (io), AD8 I/O50 (io), AD9 I/O54 (io), AD10 I/O58 (io), AD11 I/O62 (io), AD14 I/O70 (io), AD15 I/O73 (io), AD16 I/O77 (io), AD17 I/O81 (io), AD18 I/O84 (io), AD19 I/O88 (io), AD20 I/O92 (io), AD21 I/O95 (io), AD22 I/O99 (io), AD23 I/O101 (io), AD25 I/O104 (io), AD26 I/O105 (io), AE3 I/O31 (io), AE4 I/O33 (io), AE5 I/O36 (io), AE6 I/O40 (io), AE7 I/O44 (io), AE8 I/O47 (io), AE9 I/O51 (io), AE10 I/O53 (io), AE12 I/O60 (io), AE13 I/O63 (io), AE14 I/O67 (io), AE15 I/O69 (io), AE16 I/O72 (io), AE17 I/O76 (io), AE18 I/O80 (io), AE20 I/O85 (io), AE21 I/O89 (io), AE23 I/O96 (io), AE24 I/O100 (io), AE26 I/O103 (io), AF3 I/O32 (io), AF4 I/O35 (io), AF6 I/O43 (io), AF7 I/O45 (io), AF8 I/O49 (io), AF9 I/O52 (io), AF10 I/O55 (io), AF11 I/O59 (io), AF12 I/O61 (io), AF13 I/O65 (io), AF15 I/O71 (io), AF16 I/O74 (io), AF17 I/O78 (io), AF18 I/O82 (io), AF20 I/O87 (io), AF21 I/O91 (io), AF22 I/O94 (io), AF23 I/O98 (io), M25 I/O143 (io), N23 I/O140 (io), N25 I/O139 (io), N26 I/O141 (io), P24 I/O142 (io), P25 I/O135 (io), P26 I/O137 (io), R4 I/O1 (io), R23 I/O136 (io), R25 I/O132 (io), R26 I/O133 (io), T1 I/O0/TOE (io), T24 I/O134 (io), T26 I/O131 (io), U1 I/O4 (io), U2 I/O2 (io), U3 I/O7 (io), U4 I/O5 (io), U23 I/O128 (io), U24 I/O130 (io), U25 I/O125 (io), U26 I/O127 (io), V1 I/O8 (io), V2 I/O6 (io), V3 I/O11 (io), V24 I/O126 (io), V25 I/O123 (io), V26 I/O124 (io), W1 I/O10 (io), W2 I/O9 (io), W3 I/O15 (io), W4 I/O13 (io), W24 I/O122 (io), W25 I/O119 (io), W26 I/O121 (io), Y1 I/O14 (io), Y3 I/O19 (io), Y4 I/O17 (io), Y23 I/O113 (io), Y24 I/O118 (io), Y25 I/O116 (io), Y26 I/O117 (io)
part B pins: A3 I/O246 (io), A4 I/O242 (io), A5 I/O238 (io), A6 I/O235 (io), A7 I/O231 (io), A8 I/O228 (io), A9 I/O226 (io), A11 I/O218 (io), A12 I/O215 (io), A14 I/O209 (io), A15 I/O205 (io), A17 I/O199 (io), A18 I/O196 (io), A19 I/O193 (io), A20 I/O189 (io), A21 I/O187 (io), A22 I/O183 (io), A23 I/O179/CLK2 (io), A25 I/O174 (io), B1 I/O247 (io), B3 I/O244 (io), B4 I/O240 (io), B5 I/O237 (io), B6 I/O233 (io), B7 I/O229 (io), B8 I/O227 (io), B9 I/O224 (io), B10 I/O220 (io), B11 I/O216 (io), B12 I/O213 (io), B13 I/O211 (io), B14 I/O207 (io), B15 I/O204 (io), B16 I/O201 (io), B17 I/O197/CLK3 (io), B18 I/O195 (io), B19 I/O191 (io), B20 I/O188 (io), B21 I/O184 (io), B22 I/O180 (io), B23 I/O177 (io), B24 I/O175 (io), C1 I/O249 (io), C4 I/O245 (io), C5 I/O243 (io), C7 I/O236 (io), C8 I/O232 (io), C10 I/O225 (io), C11 I/O221 (io), C12 I/O217 (io), C13 I/O214 (io), C15 I/O210 (io), C16 I/O206 (io), C17 I/O202 (io), C18 I/O198 (io), C20 I/O190 (io), C21 I/O186 (io), C22 I/O182 (io), C23 I/O178 (io), C25 I/O171 (io), C26 I/O173 (io), D1 I/O251 (io), D3 I/O250 (io), D5 I/O241 (io), D7 I/O234 (io), D10 I/O223 (io), D12 I/O219 (io), D15 I/O208 (io), D17 I/O200 (io), D18 I/O192 (io), D22 I/O181 (io), D24 I/O172 (io), D25 I/O168 (io), D26 I/O170 (io), E1 I/O255 (io), E2 I/O252 (io), E3 I/O254 (io), E4 I/O253 (io), E23 I/O169 (io), E25 I/O165 (io), E26 I/O166 (io), F1 I/O259 (io), F2 I/O256 (io), F3 I/O258 (io), F25 I/O161 (io), F26 I/O163 (io), G1 I/O261 (io), G2 I/O260 (io), G3 I/O262 (io), G23 I/O162 (io), G24 I/O164 (io), G25 I/O157 (io), G26 I/O159 (io), H1 I/O265 (io), H2 I/O263 (io), H24 I/O160 (io), H25 I/O154 (io), H26 I/O155 (io), J1 I/O268 (io), J2 I/O267 (io), J3 I/O270 (io), J4 I/O264 (io), J24 I/O156 (io), J25 I/O151 (io), J26 I/O153 (io), K1 I/O271 (io), K2 I/O269 (io), K3 I/O274 (io), K4 I/O272 (io), K23 I/O150 (io), K24 I/O152 (io), K25 I/O147 (io), L2 I/O273 (io), L3 I/O277 (io), L24 I/O148 (io), L26 I/O145 (io), M1 I/O276 (io), M3 I/O281 (io), M4 I/O279 (io), M23 I/O146 (io), M24 I/O144 (io), N1 I/O280 (io), N2 I/O278 (io), N3 I/O285 (io), P2 I/O282 (io), P3 I/O287 (io), P4 I/O283 (io), R2 I/O286 (io)
part C pins: A13 CLK0 (in), AD13 GOE1 (in), AF14 GOE0 (in), C14 CLK1 (in), L25 RESET (in), N24 TDO (out), R1 TMS (in), R3 TDI (in), T2 TCK (in)
part D pins: A1 GND (power), A2 GND (power), A10 NC, A16 NC, A24 NC, A26 GND (power), AA4 VCC (power), AA23 VCC (power), AB1 NC, AB26 NC, AC4 GND (power), AC6 VCC (power), AC8 GND (power), AC9 NC, AC11 VCC (power), AC13 GND (power), AC15 NC, AC16 VCC (power), AC18 GND (power), AC21 VCC (power), AC23 GND (power), AC25 NC, AD3 GND (power), AD12 NC, AD24 GND (power), AE1 GND (power), AE2 GND (power), AE11 NC, AE19 NC, AE22 NC, AE25 GND (power), AF1 GND (power), AF2 NC, AF5 NC, AF19 NC, AF24 NC, AF25 GND (power), AF26 GND (power), B2 GND (power), B25 GND (power), B26 GND (power), C2 NC, C3 GND (power), C6 NC, C9 NC, C19 NC, C24 GND (power), D2 NC, D4 GND (power), D6 VCC (power), D8 NC, D9 GND (power), D11 VCC (power), D13 NC, D14 GND (power), D16 VCC (power), D19 GND (power), D20 NC, D21 VCC (power), D23 GND (power), E24 NC, F4 VCC (power), F23 VCC (power), F24 NC, G4 NC, H3 NC, H4 GND (power), H23 NC, J23 GND (power), K26 NC, L1 NC, L4 VCC (power), L11 GND (power), L12 GND (power), L13 GND (power), L14 GND (power), L15 GND (power), L16 GND (power), L23 VCC (power), M2 NC, M11 GND (power), M12 GND (power), M13 GND (power), M14 GND (power), M15 GND (power), M16 GND (power), M26 VCCIO (power), N4 GND (power), N11 GND (power), N12 GND (power), N13 GND (power), N14 GND (power), N15 GND (power), N16 GND (power), P1 NC, P11 GND (power), P12 GND (power), P13 GND (power), P14 GND (power), P15 GND (power), P16 GND (power), P23 GND (power), R11 GND (power), R12 GND (power), R13 GND (power), R14 GND (power), R15 GND (power), R16 GND (power), R24 NC, T3 NC, T4 VCC (power), T11 GND (power), T12 GND (power), T13 GND (power), T14 GND (power), T15 GND (power), T16 GND (power), T23 VCC (power), T25 NC, V4 GND (power), V23 NC, W23 GND (power), Y2 NC

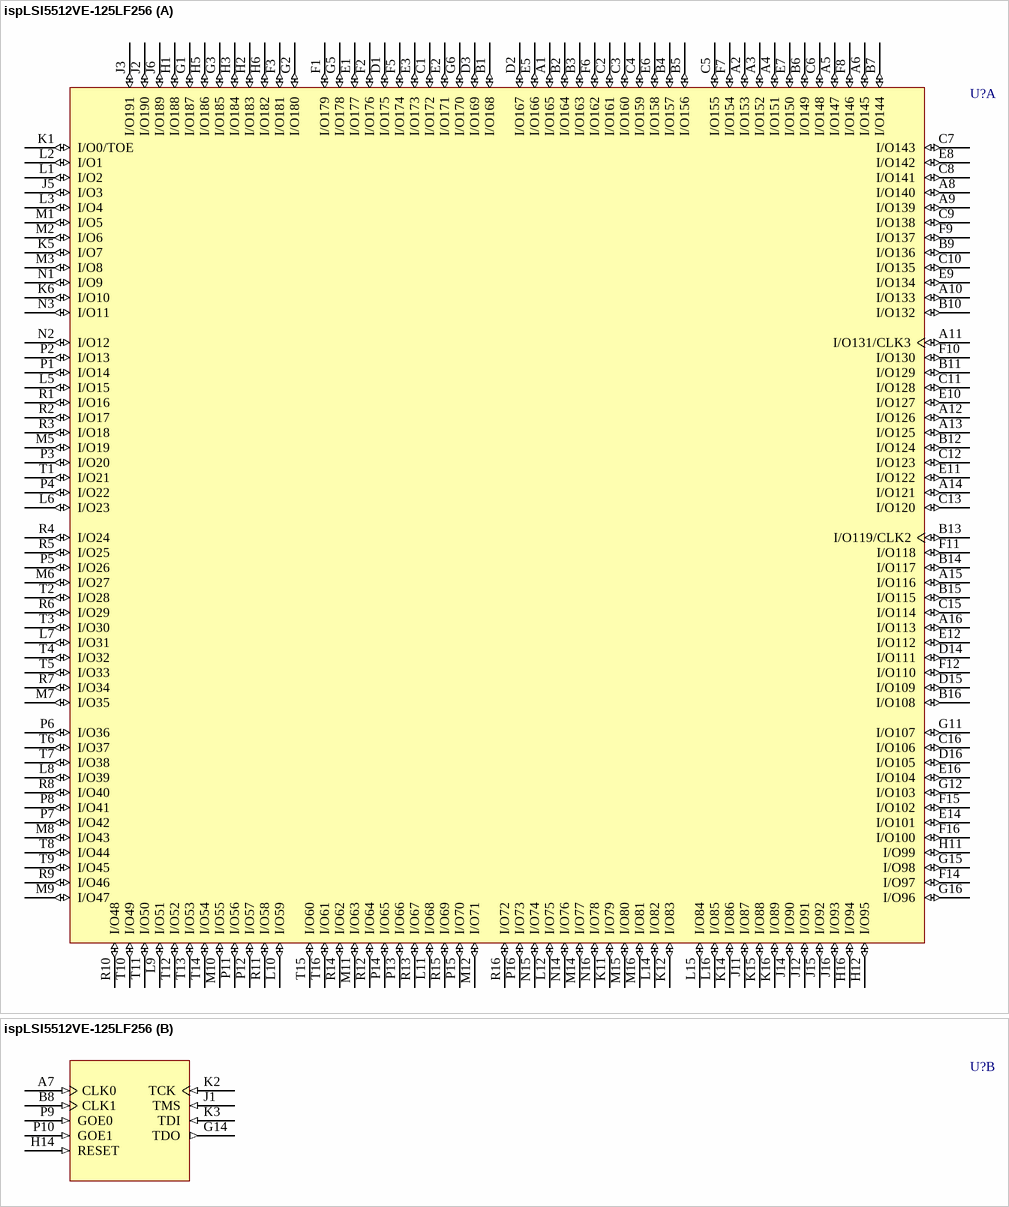
[diagram p47: symbol ispLSI5512VE-125LF256]

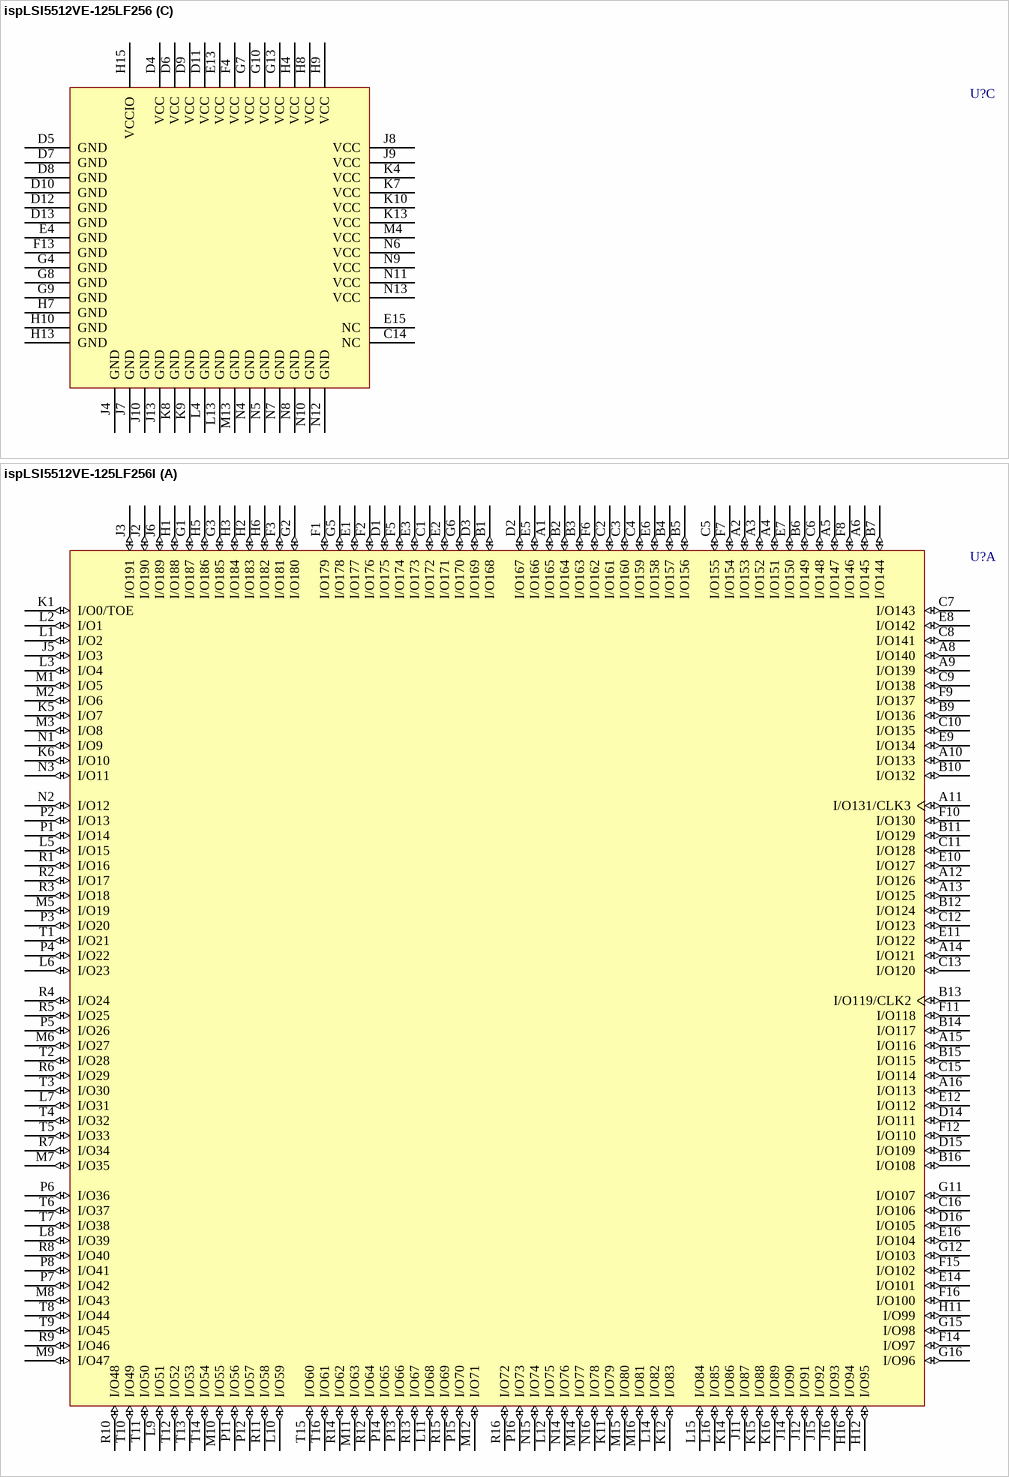
[diagram p48: symbols ispLSI5512VE-125LF256 to ispLSI5512VE-125LF256I]

## ispLSI5512VE-125LF256
designator U?
ispLSI 5512VE SuperWIDE High Density PLD with 192 User I/Os, 7.5 ns, 3.3 V, Commercial Grade; Published: 17-Sep-2003; LatestRevisionDate: 13-Apr-2006; LatestRevisionNote: IPC-7351 Footprint Added.; DatasheetVersion: 5512ve_05, Jan-2002; PackageVersion: pkg_32, Aug-2005; PackageReference: fpBGA256; Publisher: Altium Limited; PackageDescription: 256-Ball Fine Pitch Ball Grid Array (fpBGA256); Code_IPC: BGA100P16X16-256; ComponentLink1Description: Manufacturer Link; ComponentLink1URL: http://www.latticesemi.com/products/cpld/5000/5000VE/index.cfm; ComponentLink2Description: Datasheet; ComponentLink2URL: http://www.latticesemi.com/account/_download.cfm?AMID=817; ComponentLink3Description: Lattice Login; ComponentLink3URL: http://www.latticesemi.com/account/login.cfm
footprint fpBGA256 (BGA, 256-Leads, Body 17x17mm, Pitch 1mm)
3D model 5512VE-fpBGA256 (256-Ball Fine Pitch Ball Grid Array (fpBGA256))
part A pins: A1 I/O165 (io), A2 I/O153 (io), A3 I/O152 (io), A4 I/O151 (io), A5 I/O147 (io), A6 I/O145 (io), A8 I/O140 (io), A9 I/O139 (io), A10 I/O133 (io), A11 I/O131/CLK3 (io), A12 I/O126 (io), A13 I/O125 (io), A14 I/O121 (io), A15 I/O116 (io), A16 I/O113 (io), B1 I/O168 (io), B2 I/O164 (io), B3 I/O163 (io), B4 I/O157 (io), B5 I/O156 (io), B6 I/O149 (io), B7 I/O144 (io), B9 I/O136 (io), B10 I/O132 (io), B11 I/O129 (io), B12 I/O124 (io), B13 I/O119/CLK2 (io), B14 I/O117 (io), B15 I/O115 (io), B16 I/O108 (io), C1 I/O172 (io), C2 I/O161 (io), C3 I/O160 (io), C4 I/O159 (io), C5 I/O155 (io), C6 I/O148 (io), C7 I/O143 (io), C8 I/O141 (io), C9 I/O138 (io), C10 I/O135 (io), C11 I/O128 (io), C12 I/O123 (io), C13 I/O120 (io), C15 I/O114 (io), C16 I/O106 (io), D1 I/O175 (io), D2 I/O167 (io), D3 I/O169 (io), D14 I/O111 (io), D15 I/O109 (io), D16 I/O105 (io), E1 I/O177 (io), E2 I/O171 (io), E3 I/O173 (io), E5 I/O166 (io), E6 I/O158 (io), E7 I/O150 (io), E8 I/O142 (io), E9 I/O134 (io), E10 I/O127 (io), E11 I/O122 (io), E12 I/O112 (io), E14 I/O101 (io), E16 I/O104 (io), F1 I/O179 (io), F2 I/O176 (io), F3 I/O181 (io), F5 I/O174 (io), F6 I/O162 (io), F7 I/O154 (io), F8 I/O146 (io), F9 I/O137 (io), F10 I/O130 (io), F11 I/O118 (io), F12 I/O110 (io), F14 I/O97 (io), F15 I/O102 (io), F16 I/O100 (io), G1 I/O187 (io), G2 I/O180 (io), G3 I/O185 (io), G5 I/O178 (io), G6 I/O170 (io), G11 I/O107 (io), G12 I/O103 (io), G15 I/O98 (io), G16 I/O96 (io), H1 I/O188 (io), H2 I/O183 (io), H3 I/O184 (io), H5 I/O186 (io), H6 I/O182 (io), H11 I/O99 (io), H12 I/O95 (io), H16 I/O94 (io), J2 I/O190 (io), J3 I/O191 (io), J5 I/O3 (io), J6 I/O189 (io), J11 I/O87 (io), J12 I/O91 (io), J14 I/O90 (io), J15 I/O92 (io), J16 I/O93 (io), K1 I/O0/TOE (io), K5 I/O7 (io), K6 I/O10 (io), K11 I/O79 (io), K12 I/O83 (io), K14 I/O86 (io), K15 I/O88 (io), K16 I/O89 (io), L1 I/O2 (io), L2 I/O1 (io), L3 I/O4 (io), L5 I/O15 (io), L6 I/O23 (io), L7 I/O31 (io), L8 I/O39 (io), L9 I/O51 (io), L10 I/O59 (io), L11 I/O68 (io), L12 I/O75 (io), L14 I/O82 (io), L15 I/O84 (io), L16 I/O85 (io), M1 I/O5 (io), M2 I/O6 (io), M3 I/O8 (io), M5 I/O19 (io), M6 I/O27 (io), M7 I/O35 (io), M8 I/O43 (io), M9 I/O47 (io), M10 I/O55 (io), M11 I/O63 (io), M12 I/O71 (io), M14 I/O77 (io), M15 I/O80 (io), M16 I/O81 (io), N1 I/O9 (io), N2 I/O12 (io), N3 I/O11 (io), N14 I/O76 (io), N15 I/O74 (io), N16 I/O78 (io), P1 I/O14 (io), P2 I/O13 (io), P3 I/O20 (io), P4 I/O22 (io), P5 I/O26 (io), P6 I/O36 (io), P7 I/O42 (io), P8 I/O41 (io), P11 I/O56 (io), P12 I/O57 (io), P13 I/O66 (io), P14 I/O65 (io), P15 I/O70 (io), P16 I/O73 (io), R1 I/O16 (io), R2 I/O17 (io), R3 I/O18 (io), R4 I/O24 (io), R5 I/O25 (io), R6 I/O29 (io), R7 I/O34 (io), R8 I/O40 (io), R9 I/O46 (io), R10 I/O48 (io), R11 I/O58 (io), R12 I/O64 (io), R13 I/O67 (io), R14 I/O62 (io), R15 I/O69 (io), R16 I/O72 (io), T1 I/O21 (io), T2 I/O28 (io), T3 I/O30 (io), T4 I/O32 (io), T5 I/O33 (io), T6 I/O37 (io), T7 I/O38 (io), T8 I/O44 (io), T9 I/O45 (io), T10 I/O49 (io), T11 I/O50 (io), T12 I/O52 (io), T13 I/O53 (io), T14 I/O54 (io), T15 I/O60 (io), T16 I/O61 (io)
part B pins: A7 CLK0 (in), B8 CLK1 (in), G14 TDO (out), H14 RESET (in), J1 TMS (in), K2 TCK (in), K3 TDI (in), P9 GOE0 (in), P10 GOE1 (in)
part C pins: C14 NC, D4 VCC (power), D5 GND (power), D6 VCC (power), D7 GND (power), D8 GND (power), D9 VCC (power), D10 GND (power), D11 VCC (power), D12 GND (power), D13 GND (power), E4 GND (power), E13 VCC (power), E15 NC, F4 VCC (power), F13 GND (power), G4 GND (power), G7 VCC (power), G8 GND (power), G9 GND (power), G10 VCC (power), G13 VCC (power), H4 VCC (power), H7 GND (power), H8 VCC (power), H9 VCC (power), H10 GND (power), H13 GND (power), H15 VCCIO (power), J4 GND (power), J7 GND (power), J8 VCC (power), J9 VCC (power), J10 GND (power), J13 GND (power), K4 VCC (power), K7 VCC (power), K8 GND (power), K9 GND (power), K10 VCC (power), K13 VCC (power), L4 GND (power), L13 GND (power), M4 VCC (power), M13 GND (power), N4 GND (power), N5 GND (power), N6 VCC (power), N7 GND (power), N8 GND (power), N9 VCC (power), N10 GND (power), N11 VCC (power), N12 GND (power), N13 VCC (power)

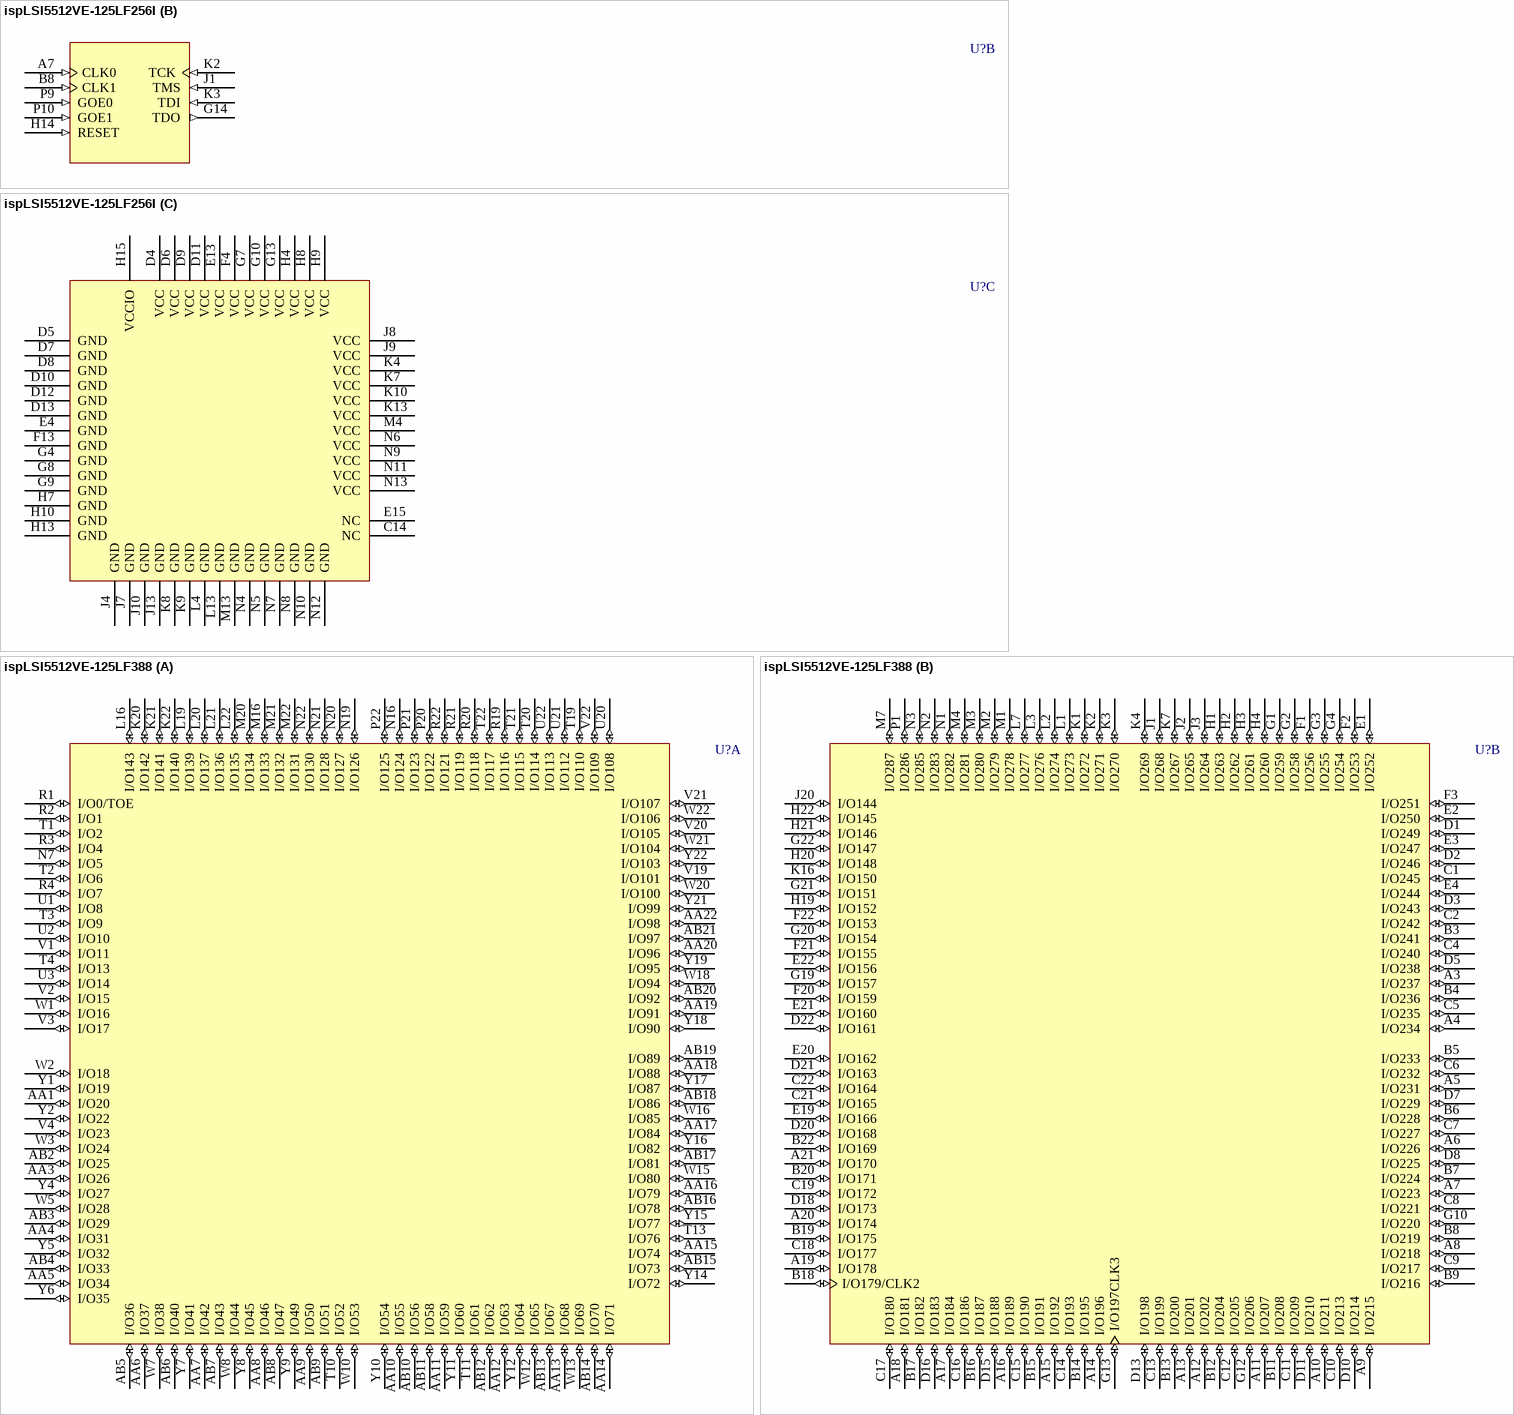
[diagram p49: symbols ispLSI5512VE-125LF256I to ispLSI5512VE-125LF388]

## ispLSI5512VE-125LF256I
designator U?
ispLSI 5512VE SuperWIDE High Density PLD with 192 User I/Os, 7.5 ns, 3.3 V, Industrial Grade; Published: 17-Sep-2003; LatestRevisionDate: 13-Apr-2006; LatestRevisionNote: IPC-7351 Footprint Added.; DatasheetVersion: 5512ve_05, Jan-2002; PackageVersion: pkg_32, Aug-2005; PackageReference: fpBGA256; Publisher: Altium Limited; PackageDescription: 256-Ball Fine Pitch Ball Grid Array (fpBGA256); Code_IPC: BGA100P16X16-256; ComponentLink1Description: Manufacturer Link; ComponentLink1URL: http://www.latticesemi.com/products/cpld/5000/5000VE/index.cfm; ComponentLink2Description: Datasheet; ComponentLink2URL: http://www.latticesemi.com/account/_download.cfm?AMID=817; ComponentLink3Description: Lattice Login; ComponentLink3URL: http://www.latticesemi.com/account/login.cfm
footprint fpBGA256 (BGA, 256-Leads, Body 17x17mm, Pitch 1mm)
3D model 5512VE-fpBGA256 (256-Ball Fine Pitch Ball Grid Array (fpBGA256))
part A pins: A1 I/O165 (io), A2 I/O153 (io), A3 I/O152 (io), A4 I/O151 (io), A5 I/O147 (io), A6 I/O145 (io), A8 I/O140 (io), A9 I/O139 (io), A10 I/O133 (io), A11 I/O131/CLK3 (io), A12 I/O126 (io), A13 I/O125 (io), A14 I/O121 (io), A15 I/O116 (io), A16 I/O113 (io), B1 I/O168 (io), B2 I/O164 (io), B3 I/O163 (io), B4 I/O157 (io), B5 I/O156 (io), B6 I/O149 (io), B7 I/O144 (io), B9 I/O136 (io), B10 I/O132 (io), B11 I/O129 (io), B12 I/O124 (io), B13 I/O119/CLK2 (io), B14 I/O117 (io), B15 I/O115 (io), B16 I/O108 (io), C1 I/O172 (io), C2 I/O161 (io), C3 I/O160 (io), C4 I/O159 (io), C5 I/O155 (io), C6 I/O148 (io), C7 I/O143 (io), C8 I/O141 (io), C9 I/O138 (io), C10 I/O135 (io), C11 I/O128 (io), C12 I/O123 (io), C13 I/O120 (io), C15 I/O114 (io), C16 I/O106 (io), D1 I/O175 (io), D2 I/O167 (io), D3 I/O169 (io), D14 I/O111 (io), D15 I/O109 (io), D16 I/O105 (io), E1 I/O177 (io), E2 I/O171 (io), E3 I/O173 (io), E5 I/O166 (io), E6 I/O158 (io), E7 I/O150 (io), E8 I/O142 (io), E9 I/O134 (io), E10 I/O127 (io), E11 I/O122 (io), E12 I/O112 (io), E14 I/O101 (io), E16 I/O104 (io), F1 I/O179 (io), F2 I/O176 (io), F3 I/O181 (io), F5 I/O174 (io), F6 I/O162 (io), F7 I/O154 (io), F8 I/O146 (io), F9 I/O137 (io), F10 I/O130 (io), F11 I/O118 (io), F12 I/O110 (io), F14 I/O97 (io), F15 I/O102 (io), F16 I/O100 (io), G1 I/O187 (io), G2 I/O180 (io), G3 I/O185 (io), G5 I/O178 (io), G6 I/O170 (io), G11 I/O107 (io), G12 I/O103 (io), G15 I/O98 (io), G16 I/O96 (io), H1 I/O188 (io), H2 I/O183 (io), H3 I/O184 (io), H5 I/O186 (io), H6 I/O182 (io), H11 I/O99 (io), H12 I/O95 (io), H16 I/O94 (io), J2 I/O190 (io), J3 I/O191 (io), J5 I/O3 (io), J6 I/O189 (io), J11 I/O87 (io), J12 I/O91 (io), J14 I/O90 (io), J15 I/O92 (io), J16 I/O93 (io), K1 I/O0/TOE (io), K5 I/O7 (io), K6 I/O10 (io), K11 I/O79 (io), K12 I/O83 (io), K14 I/O86 (io), K15 I/O88 (io), K16 I/O89 (io), L1 I/O2 (io), L2 I/O1 (io), L3 I/O4 (io), L5 I/O15 (io), L6 I/O23 (io), L7 I/O31 (io), L8 I/O39 (io), L9 I/O51 (io), L10 I/O59 (io), L11 I/O68 (io), L12 I/O75 (io), L14 I/O82 (io), L15 I/O84 (io), L16 I/O85 (io), M1 I/O5 (io), M2 I/O6 (io), M3 I/O8 (io), M5 I/O19 (io), M6 I/O27 (io), M7 I/O35 (io), M8 I/O43 (io), M9 I/O47 (io), M10 I/O55 (io), M11 I/O63 (io), M12 I/O71 (io), M14 I/O77 (io), M15 I/O80 (io), M16 I/O81 (io), N1 I/O9 (io), N2 I/O12 (io), N3 I/O11 (io), N14 I/O76 (io), N15 I/O74 (io), N16 I/O78 (io), P1 I/O14 (io), P2 I/O13 (io), P3 I/O20 (io), P4 I/O22 (io), P5 I/O26 (io), P6 I/O36 (io), P7 I/O42 (io), P8 I/O41 (io), P11 I/O56 (io), P12 I/O57 (io), P13 I/O66 (io), P14 I/O65 (io), P15 I/O70 (io), P16 I/O73 (io), R1 I/O16 (io), R2 I/O17 (io), R3 I/O18 (io), R4 I/O24 (io), R5 I/O25 (io), R6 I/O29 (io), R7 I/O34 (io), R8 I/O40 (io), R9 I/O46 (io), R10 I/O48 (io), R11 I/O58 (io), R12 I/O64 (io), R13 I/O67 (io), R14 I/O62 (io), R15 I/O69 (io), R16 I/O72 (io), T1 I/O21 (io), T2 I/O28 (io), T3 I/O30 (io), T4 I/O32 (io), T5 I/O33 (io), T6 I/O37 (io), T7 I/O38 (io), T8 I/O44 (io), T9 I/O45 (io), T10 I/O49 (io), T11 I/O50 (io), T12 I/O52 (io), T13 I/O53 (io), T14 I/O54 (io), T15 I/O60 (io), T16 I/O61 (io)
part B pins: A7 CLK0 (in), B8 CLK1 (in), G14 TDO (out), H14 RESET (in), J1 TMS (in), K2 TCK (in), K3 TDI (in), P9 GOE0 (in), P10 GOE1 (in)
part C pins: C14 NC, D4 VCC (power), D5 GND (power), D6 VCC (power), D7 GND (power), D8 GND (power), D9 VCC (power), D10 GND (power), D11 VCC (power), D12 GND (power), D13 GND (power), E4 GND (power), E13 VCC (power), E15 NC, F4 VCC (power), F13 GND (power), G4 GND (power), G7 VCC (power), G8 GND (power), G9 GND (power), G10 VCC (power), G13 VCC (power), H4 VCC (power), H7 GND (power), H8 VCC (power), H9 VCC (power), H10 GND (power), H13 GND (power), H15 VCCIO (power), J4 GND (power), J7 GND (power), J8 VCC (power), J9 VCC (power), J10 GND (power), J13 GND (power), K4 VCC (power), K7 VCC (power), K8 GND (power), K9 GND (power), K10 VCC (power), K13 VCC (power), L4 GND (power), L13 GND (power), M4 VCC (power), M13 GND (power), N4 GND (power), N5 GND (power), N6 VCC (power), N7 GND (power), N8 GND (power), N9 VCC (power), N10 GND (power), N11 VCC (power), N12 GND (power), N13 VCC (power)

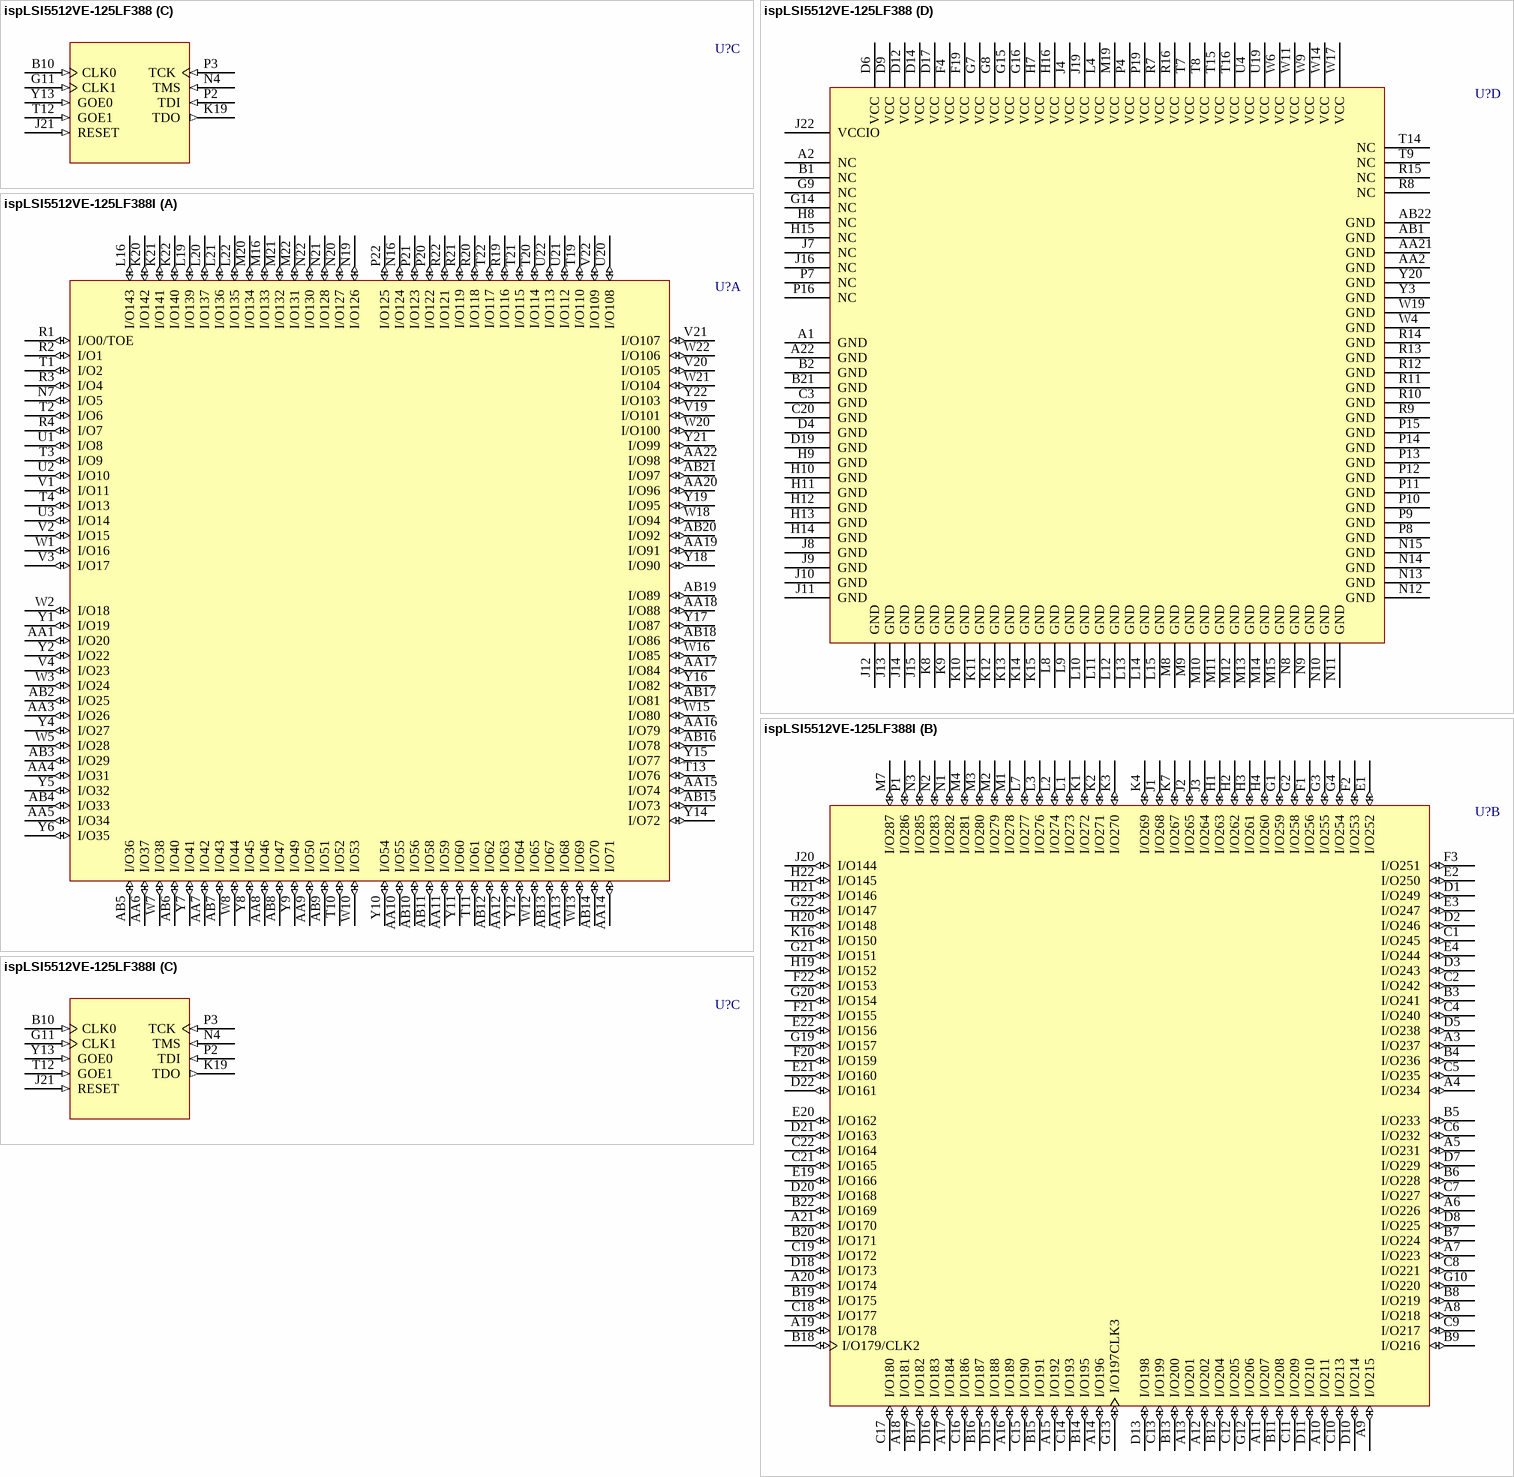
[diagram p50: symbols ispLSI5512VE-125LF388 to ispLSI5512VE-125LF388I]

## ispLSI5512VE-125LF388
designator U?
ispLSI 5512VE SuperWIDE High Density PLD with 256 User I/Os, 7.5 ns, 3.3 V, Commercial Grade; Published: 17-Sep-2003; LatestRevisionDate: 13-Apr-2006; LatestRevisionNote: IPC-7351 Footprint Added.; DatasheetVersion: 5512ve_05, Jan-2002; PackageVersion: pkg_32, Aug-2005; PackageReference: fpBGA388; Publisher: Altium Limited; PackageDescription: 388-Ball Fine Pitch Ball Grid Array (fpBGA388); ComponentLink1Description: Manufacturer Link; ComponentLink1URL: http://www.latticesemi.com/products/cpld/5000/5000VE/index.cfm; ComponentLink2Description: Datasheet; ComponentLink2URL: http://www.latticesemi.com/account/_download.cfm?AMID=817; ComponentLink3Description: Lattice Login; ComponentLink3URL: http://www.latticesemi.com/account/login.cfm
footprint fpBGA388 (BGA, 388-Leads, Body 23x23mm, Pitch 1mm)
3D model 5512VE-fpBGA388 (388-Ball Fine Pitch Ball Grid Array (fpBGA388))
part A pins: AA1 I/O20 (io), AA3 I/O26 (io), AA4 I/O31 (io), AA5 I/O34 (io), AA6 I/O37 (io), AA7 I/O42 (io), AA8 I/O46 (io), AA9 I/O50 (io), AA10 I/O55 (io), AA11 I/O59 (io), AA12 I/O63 (io), AA13 I/O68 (io), AA14 I/O71 (io), AA15 I/O74 (io), AA16 I/O79 (io), AA17 I/O84 (io), AA18 I/O88 (io), AA19 I/O91 (io), AA20 I/O96 (io), AA22 I/O98 (io), AB2 I/O25 (io), AB3 I/O29 (io), AB4 I/O33 (io), AB5 I/O36 (io), AB6 I/O40 (io), AB7 I/O43 (io), AB8 I/O47 (io), AB9 I/O51 (io), AB10 I/O56 (io), AB11 I/O58 (io), AB12 I/O62 (io), AB13 I/O67 (io), AB14 I/O70 (io), AB15 I/O73 (io), AB16 I/O78 (io), AB17 I/O81 (io), AB18 I/O86 (io), AB19 I/O89 (io), AB20 I/O92 (io), AB21 I/O97 (io), K20 I/O142 (io), K21 I/O141 (io), K22 I/O140 (io), L16 I/O143 (io), L19 I/O139 (io), L20 I/O137 (io), L21 I/O136 (io), L22 I/O135 (io), M16 I/O133 (io), M20 I/O134 (io), M21 I/O132 (io), M22 I/O131 (io), N7 I/O5 (io), N16 I/O124 (io), N19 I/O126 (io), N20 I/O127 (io), N21 I/O128 (io), N22 I/O130 (io), P20 I/O122 (io), P21 I/O123 (io), P22 I/O125 (io), R1 I/O0/TOE (io), R2 I/O1 (io), R3 I/O4 (io), R4 I/O7 (io), R19 I/O116 (io), R20 I/O118 (io), R21 I/O119 (io), R22 I/O121 (io), T1 I/O2 (io), T2 I/O6 (io), T3 I/O9 (io), T4 I/O13 (io), T10 I/O52 (io), T11 I/O61 (io), T13 I/O76 (io), T19 I/O110 (io), T20 I/O114 (io), T21 I/O115 (io), T22 I/O117 (io), U1 I/O8 (io), U2 I/O10 (io), U3 I/O14 (io), U20 I/O108 (io), U21 I/O112 (io), U22 I/O113 (io), V1 I/O11 (io), V2 I/O15 (io), V3 I/O17 (io), V4 I/O23 (io), V19 I/O101 (io), V20 I/O105 (io), V21 I/O107 (io), V22 I/O109 (io), W1 I/O16 (io), W2 I/O18 (io), W3 I/O24 (io), W5 I/O28 (io), W7 I/O38 (io), W8 I/O44 (io), W10 I/O53 (io), W12 I/O65 (io), W13 I/O69 (io), W15 I/O80 (io), W16 I/O85 (io), W18 I/O94 (io), W20 I/O100 (io), W21 I/O104 (io), W22 I/O106 (io), Y1 I/O19 (io), Y2 I/O22 (io), Y4 I/O27 (io), Y5 I/O32 (io), Y6 I/O35 (io), Y7 I/O41 (io), Y8 I/O45 (io), Y9 I/O49 (io), Y10 I/O54 (io), Y11 I/O60 (io), Y12 I/O64 (io), Y14 I/O72 (io), Y15 I/O77 (io), Y16 I/O82 (io), Y17 I/O87 (io), Y18 I/O90 (io), Y19 I/O95 (io), Y21 I/O99 (io), Y22 I/O103 (io)
part B pins: A3 I/O237 (io), A4 I/O234 (io), A5 I/O231 (io), A6 I/O226 (io), A7 I/O223 (io), A8 I/O218 (io), A9 I/O215 (io), A10 I/O211 (io), A11 I/O207 (io), A12 I/O202 (io), A13 I/O201 (io), A14 I/O196 (io), A15 I/O192 (io), A16 I/O189 (io), A17 I/O184 (io), A18 I/O181 (io), A19 I/O178 (io), A20 I/O174 (io), A21 I/O170 (io), B3 I/O241 (io), B4 I/O236 (io), B5 I/O233 (io), B6 I/O228 (io), B7 I/O224 (io), B8 I/O219 (io), B9 I/O216 (io), B11 I/O208 (io), B12 I/O204 (io), B13 I/O200 (io), B14 I/O195 (io), B15 I/O191 (io), B16 I/O187 (io), B17 I/O182 (io), B18 I/O179/CLK2 (io), B19 I/O175 (io), B20 I/O171 (io), B22 I/O169 (io), C1 I/O245 (io), C2 I/O242 (io), C4 I/O240 (io), C5 I/O235 (io), C6 I/O232 (io), C7 I/O227 (io), C8 I/O221 (io), C9 I/O217 (io), C10 I/O213 (io), C11 I/O209 (io), C12 I/O205 (io), C13 I/O199 (io), C14 I/O193 (io), C15 I/O190 (io), C16 I/O186 (io), C17 I/O180 (io), C18 I/O177 (io), C19 I/O172 (io), C21 I/O165 (io), C22 I/O164 (io), D1 I/O249 (io), D2 I/O246 (io), D3 I/O243 (io), D5 I/O238 (io), D7 I/O229 (io), D8 I/O225 (io), D10 I/O214 (io), D11 I/O210 (io), D13 I/O198 (io), D15 I/O188 (io), D16 I/O183 (io), D18 I/O173 (io), D20 I/O168 (io), D21 I/O163 (io), D22 I/O161 (io), E1 I/O252 (io), E2 I/O250 (io), E3 I/O247 (io), E4 I/O244 (io), E19 I/O166 (io), E20 I/O162 (io), E21 I/O160 (io), E22 I/O156 (io), F1 I/O256 (io), F2 I/O253 (io), F3 I/O251 (io), F20 I/O159 (io), F21 I/O155 (io), F22 I/O153 (io), G1 I/O259 (io), G2 I/O258 (io), G3 I/O255 (io), G4 I/O254 (io), G10 I/O220 (io), G12 I/O206 (io), G13 I/O197CLK3 (io), G19 I/O157 (io), G20 I/O154 (io), G21 I/O151 (io), G22 I/O147 (io), H1 I/O263 (io), H2 I/O262 (io), H3 I/O261 (io), H4 I/O260 (io), H19 I/O152 (io), H20 I/O148 (io), H21 I/O146 (io), H22 I/O145 (io), J1 I/O268 (io), J2 I/O265 (io), J3 I/O264 (io), J20 I/O144 (io), K1 I/O272 (io), K2 I/O271 (io), K3 I/O270 (io), K4 I/O269 (io), K7 I/O267 (io), K16 I/O150 (io), L1 I/O273 (io), L2 I/O274 (io), L3 I/O276 (io), L7 I/O277 (io), M1 I/O278 (io), M2 I/O279 (io), M3 I/O280 (io), M4 I/O281 (io), M7 I/O287 (io), N1 I/O282 (io), N2 I/O283 (io), N3 I/O285 (io), P1 I/O286 (io)
part C pins: B10 CLK0 (in), G11 CLK1 (in), J21 RESET (in), K19 TDO (out), N4 TMS (in), P2 TDI (in), P3 TCK (in), T12 GOE1 (in), Y13 GOE0 (in)
part D pins: A1 GND (power), A2 NC, A22 GND (power), AA2 GND (power), AA21 GND (power), AB1 GND (power), AB22 GND (power), B1 NC, B2 GND (power), B21 GND (power), C3 GND (power), C20 GND (power), D4 GND (power), D6 VCC (power), D9 VCC (power), D12 VCC (power), D14 VCC (power), D17 VCC (power), D19 GND (power), F4 VCC (power), F19 VCC (power), G7 VCC (power), G8 VCC (power), G9 NC, G14 NC, G15 VCC (power), G16 VCC (power), H7 VCC (power), H8 NC, H9 GND (power), H10 GND (power), H11 GND (power), H12 GND (power), H13 GND (power), H14 GND (power), H15 NC, H16 VCC (power), J4 VCC (power), J7 NC, J8 GND (power), J9 GND (power), J10 GND (power), J11 GND (power), J12 GND (power), J13 GND (power), J14 GND (power), J15 GND (power), J16 NC, J19 VCC (power), J22 VCCIO (power), K8 GND (power), K9 GND (power), K10 GND (power), K11 GND (power), K12 GND (power), K13 GND (power), K14 GND (power), K15 GND (power), L4 VCC (power), L8 GND (power), L9 GND (power), L10 GND (power), L11 GND (power), L12 GND (power), L13 GND (power), L14 GND (power), L15 GND (power), M8 GND (power), M9 GND (power), M10 GND (power), M11 GND (power), M12 GND (power), M13 GND (power), M14 GND (power), M15 GND (power), M19 VCC (power), N8 GND (power), N9 GND (power), N10 GND (power), N11 GND (power), N12 GND (power), N13 GND (power), N14 GND (power), N15 GND (power), P4 VCC (power), P7 NC, P8 GND (power), P9 GND (power), P10 GND (power), P11 GND (power), P12 GND (power), P13 GND (power), P14 GND (power), P15 GND (power), P16 NC, P19 VCC (power), R7 VCC (power), R8 NC, R9 GND (power), R10 GND (power), R11 GND (power), R12 GND (power), R13 GND (power), R14 GND (power), R15 NC, R16 VCC (power), T7 VCC (power), T8 VCC (power), T9 NC, T14 NC, T15 VCC (power), T16 VCC (power), U4 VCC (power), U19 VCC (power), W4 GND (power), W6 VCC (power), W9 VCC (power), W11 VCC (power), W14 VCC (power), W17 VCC (power), W19 GND (power), Y3 GND (power), Y20 GND (power)

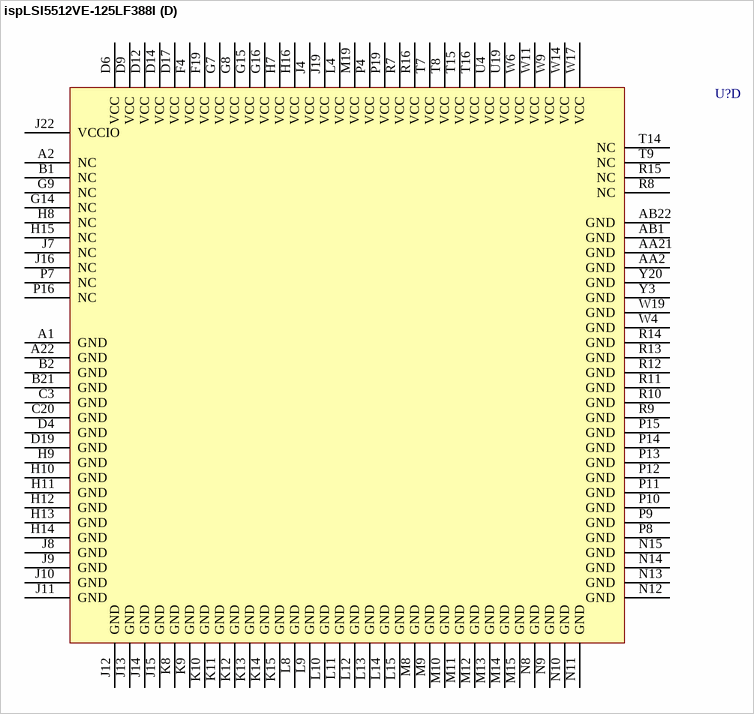
[diagram p51: symbol ispLSI5512VE-125LF388I]